# Altium schematic symbol library fpga_xilinx.SchLib: 16 symbols (part 2 of 5)
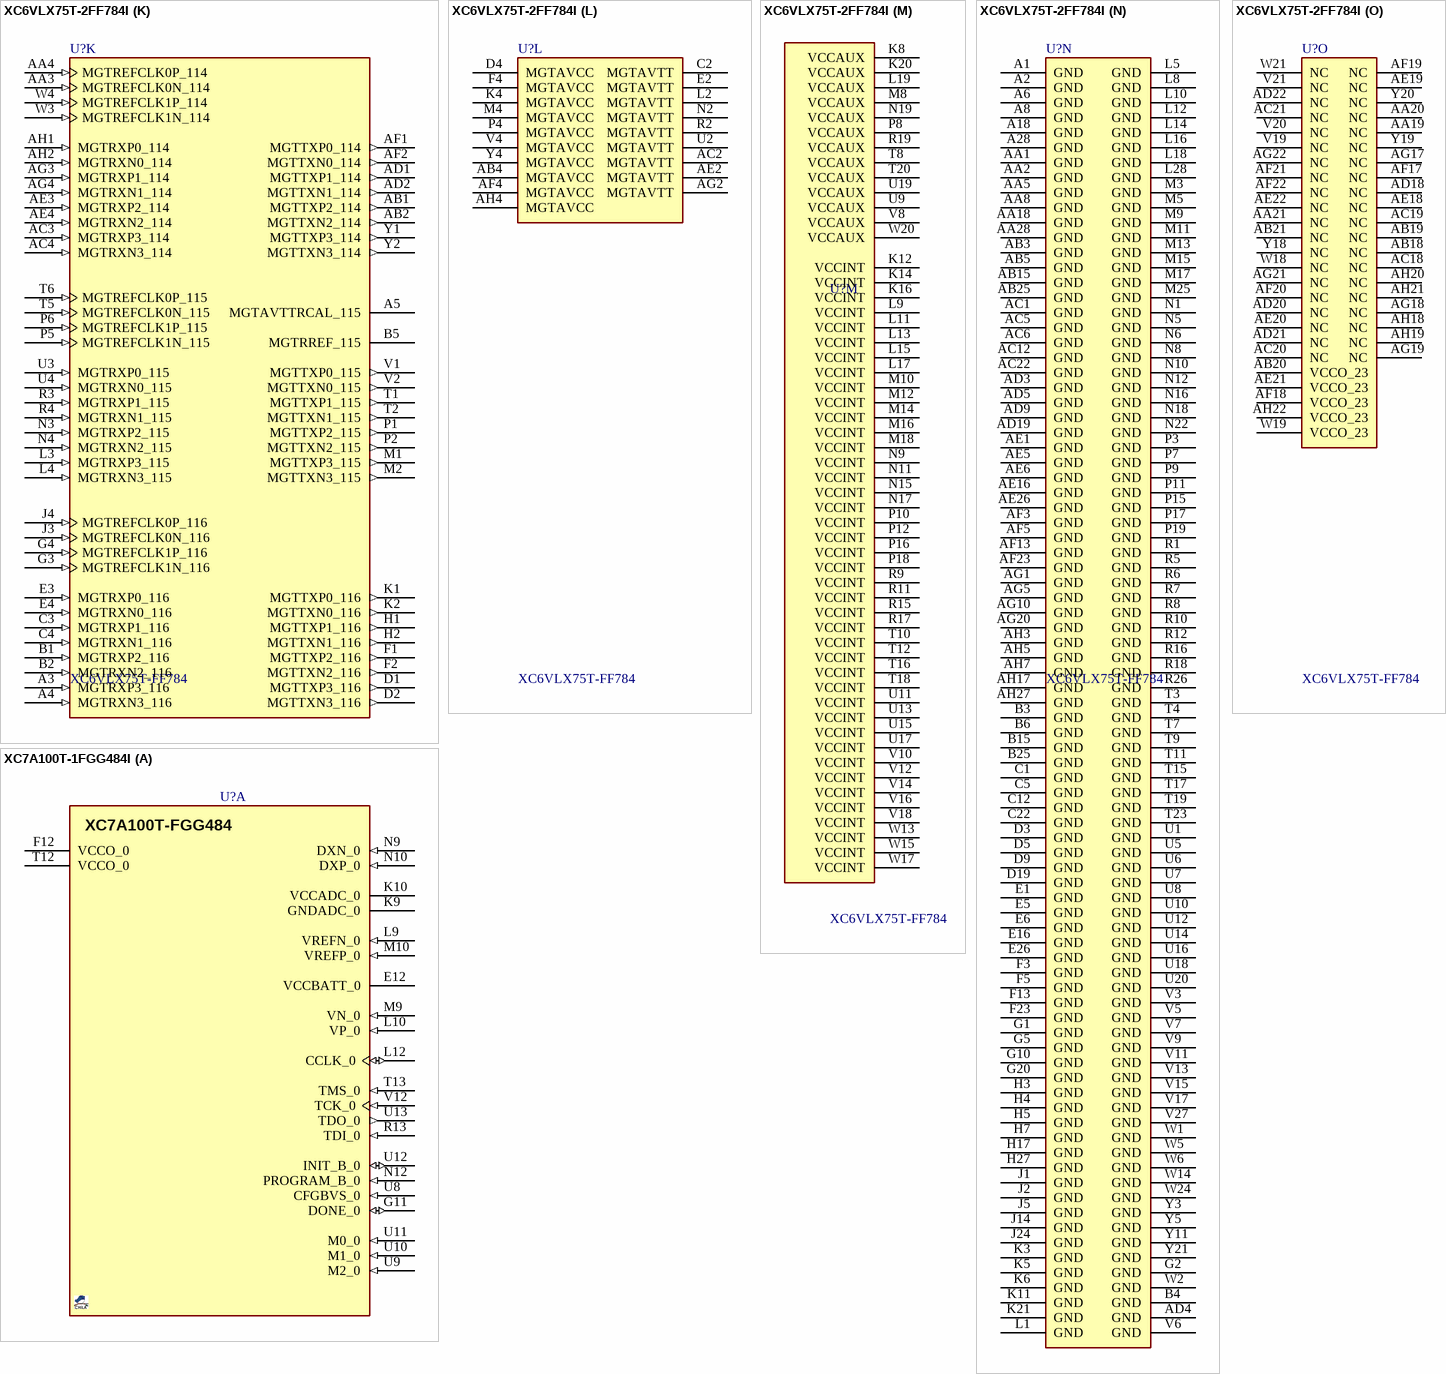
[diagram p35: symbols XC6VLX75T-2FF784I to XC7A100T-1FGG484I]

## XC6VLX75T-2FF784I
designator U?, comment XC6VLX75T-FF784
Virtex-6 LXT Platform FPGA, 360 User I/Os, 12 GTXs, 784-Ball FFBGA, Speed Grade 2, Industrial Grade; MANF: XILINX; MANF_P#: XC6VLX75T-2FF784I; ASSEMBLY: ASSEMBLY; VALUE: XC6VLX75T-FF784
footprint BGA100_784_S29 (BGA, 784-Leads, Body 29x29mm, Pitch 1mm)
part A pins: P20 IO_L14N_VREF_14 (io), P21 IO_L8P_SRCC_14 (io), P22 IO_L8N_SRCC_14 (io), R20 IO_L14P_14 (io), R21 VCCO_14 (power), R22 IO_L18P_14 (io), R23 IO_L18N_14 (io), R24 IO_L12P_VRN_14 (io), R25 IO_L12N_VRP_14 (io), R27 IO_L0P_14 (io), R28 IO_L0N_14 (io), T21 IO_L19P_14 (io), T22 IO_L19N_14 (io), T24 IO_L15P_14 (io), T25 IO_L15N_14 (io), T26 IO_L10N_MRCC_14 (io), T27 IO_L1P_14 (io), T28 VCCO_14 (power), U21 IO_L17N_14 (io), U22 IO_L17P_14 (io), U23 IO_L11N_SRCC_14 (io), U24 IO_L16N_14 (io), U25 VCCO_14 (power), U26 IO_L10P_MRCC_14 (io), U27 IO_L1N_14 (io), U28 IO_L2N_14 (io), V22 VCCO_14 (power), V23 IO_L11P_SRCC_14 (io), V24 IO_L16P_14 (io), V25 IO_L3N_14 (io), V26 IO_L4N_VREF_14 (io), V28 IO_L2P_14 (io), W22 IO_L13N_14 (io), W23 IO_L9N_MRCC_14 (io), W25 IO_L3P_14 (io), W26 IO_L4P_14 (io), W27 IO_L6P_14 (io), W28 IO_L5N_14 (io), Y22 IO_L13P_14 (io), Y23 IO_L9P_MRCC_14 (io), Y24 IO_L7N_14 (io), Y25 IO_L7P_14 (io), Y26 VCCO_14 (power), Y27 IO_L6N_14 (io), Y28 IO_L5P_14 (io)
part B pins: H25 IO_L1P_15 (io), H26 IO_L1N_15 (io), J23 IO_L2N_SM8N_15 (io), J25 IO_L5N_SM10N_15 (io), J26 IO_L3P_SM9P_15 (io), J27 IO_L3N_SM9N_15 (io), J28 IO_L7P_SM12P_15 (io), K22 IO_L0P_15 (io), K23 IO_L0N_15 (io), K24 IO_L2P_SM8P_15 (io), K25 IO_L5P_SM10P_15 (io), K26 VCCO_15 (power), K27 IO_L9P_MRCC_15 (io), K28 IO_L7N_SM12N_15 (io), L20 IO_L4P_15 (io), L21 IO_L8P_SRCC_15 (io), L22 IO_L8N_SRCC_15 (io), L23 VCCO_15 (power), L24 IO_L14P_15 (io), L25 IO_L14N_VREF_15 (io), L26 IO_L9N_MRCC_15 (io), L27 IO_L12N_SM13N_15 (io), M19 IO_L4N_VREF_15 (io), M20 VCCO_15 (power), M21 IO_L10N_MRCC_15 (io), M22 IO_L10P_MRCC_15 (io), M23 IO_L6P_SM11P_15 (io), M24 IO_L6N_SM11N_15 (io), M26 IO_L11P_SRCC_15 (io), M27 IO_L12P_SM13P_15 (io), M28 IO_L15N_SM15N_15 (io), N20 IO_L18P_15 (io), N21 IO_L18N_15 (io), N23 IO_L19P_15 (io), N24 IO_L16P_VRN_15 (io), N25 IO_L16N_VRP_15 (io), N26 IO_L11N_SRCC_15 (io), N27 VCCO_15 (power), N28 IO_L15P_SM15P_15 (io), P23 IO_L19N_15 (io), P24 VCCO_15 (power), P25 IO_L17N_15 (io), P26 IO_L17P_15 (io), P27 IO_L13N_SM14N_15 (io), P28 IO_L13P_SM14P_15 (io)
part C pins: A26 IO_L7P_16 (io), A27 IO_L7N_16 (io), B24 IO_L1P_16 (io), B26 IO_L3P_16 (io), B27 IO_L9P_MRCC_16 (io), B28 IO_L9N_MRCC_16 (io), C23 IO_L4N_VREF_16 (io), C24 IO_L1N_16 (io), C25 IO_L3N_16 (io), C26 IO_L18N_16 (io), C27 VCCO_16 (power), C28 IO_L11N_SRCC_16 (io), D22 IO_L4P_16 (io), D23 IO_L14N_VREF_16 (io), D24 VCCO_16 (power), D25 IO_L6N_16 (io), D26 IO_L18P_16 (io), D27 IO_L11P_SRCC_16 (io), D28 IO_L13P_16 (io), E22 IO_L5P_16 (io), E23 IO_L14P_16 (io), E24 IO_L6P_16 (io), E25 IO_L10P_MRCC_16 (io), E27 IO_L16N_16 (io), E28 IO_L13N_16 (io), F22 IO_L5N_16 (io), F24 IO_L10N_MRCC_16 (io), F25 IO_L15N_16 (io), F26 IO_L15P_16 (io), F27 IO_L16P_16 (io), F28 VCCO_16 (power), G22 IO_L0P_16 (io), G23 IO_L2N_16 (io), G24 IO_L12N_VRP_16 (io), G25 VCCO_16 (power), G26 IO_L17N_16 (io), G27 IO_L17P_16 (io), G28 IO_L19P_16 (io), H21 IO_L0N_16 (io), H22 VCCO_16 (power), H23 IO_L2P_16 (io), H24 IO_L12P_VRN_16 (io), H28 IO_L19N_16 (io), J21 IO_L8P_SRCC_16 (io), J22 IO_L8N_SRCC_16 (io)
part D pins: AA22 IO_L19N_24 (io), AA23 VCCO_24 (power), AA24 IO_L6P_D7_24 (io), AA25 IO_L6N_D6_24 (io), AA26 IO_L0P_GC_24 (io), AA27 IO_L0N_GC_24 (io), AB22 IO_L19P_24 (io), AB23 IO_L11P_SRCC_24 (io), AB24 IO_L16N_CSO_B_24 (io), AB26 IO_L8N_SRCC_24 (io), AB27 IO_L8P_SRCC_24 (io), AB28 IO_L2N_D14_24 (io), AC23 IO_L11N_SRCC_24 (io), AC24 IO_L16P_RS0_24 (io), AC25 IO_L7P_D5_24 (io), AC26 IO_L12P_D3_24 (io), AC27 VCCO_24 (power), AC28 IO_L2P_D15_24 (io), AD23 IO_L18N_24 (io), AD24 VCCO_24 (power), AD25 IO_L7N_D4_24 (io), AD26 IO_L12N_D2_FS2_24 (io), AD27 IO_L1N_GC_24 (io), AD28 IO_L1P_GC_24 (io), AE23 IO_L18P_24 (io), AE24 IO_L14P_FCS_B_24 (io), AE25 IO_L10P_MRCC_24 (io), AE27 IO_L5N_D8_24 (io), AE28 IO_L5P_D9_24 (io), AF24 IO_L14N_VREF_FOE_B_MOSI_24 (io), AF25 IO_L10N_MRCC_24 (io), AF26 IO_L9P_MRCC_24 (io), AF27 IO_L3N_D12_24 (io), AF28 VCCO_24 (power), AG23 IO_L17N_VRP_24 (io), AG24 IO_L15P_FWE_B_24 (io), AG25 VCCO_24 (power), AG26 IO_L9N_MRCC_24 (io), AG27 IO_L4P_D11_24 (io), AG28 IO_L3P_D13_24 (io), AH23 IO_L17P_VRN_24 (io), AH24 IO_L15N_RS1_24 (io), AH25 IO_L13N_D0_FS0_24 (io), AH26 IO_L13P_D1_FS1_24 (io), AH28 IO_L4N_VREF_D10_24 (io)
part E pins: A19 IO_L8N_SRCC_25 (io), A20 IO_L8P_SRCC_25 (io), A21 IO_L11P_SRCC_25 (io), A22 IO_L11N_SRCC_25 (io), A23 VCCO_25 (power), A24 IO_L15P_25 (io), A25 IO_L15N_25 (io), B18 IO_L5P_25 (io), B19 IO_L5N_25 (io), B20 VCCO_25 (power), B21 IO_L13P_25 (io), B22 IO_L17P_25 (io), B23 IO_L17N_25 (io), C18 IO_L3P_25 (io), C19 IO_L12P_25 (io), C20 IO_L12N_25 (io), C21 IO_L13N_25 (io), D17 IO_L6P_25 (io), D18 IO_L3N_25 (io), D20 IO_L10P_MRCC_25 (io), D21 IO_L16N_VRP_25 (io), E17 IO_L6N_25 (io), E18 IO_L7P_25 (io), E19 IO_L10N_MRCC_25 (io), E20 IO_L16P_VRN_25 (io), E21 VCCO_25 (power), F17 IO_L1N_25 (io), F18 VCCO_25 (power), F19 IO_L7N_25 (io), F20 IO_L19P_GC_25 (io), F21 IO_L19N_GC_25 (io), G17 IO_L1P_25 (io), G18 IO_L4P_25 (io), G19 IO_L9N_MRCC_25 (io), G21 IO_L18N_GC_25 (io), H18 IO_L4N_VREF_25 (io), H19 IO_L9P_MRCC_25 (io), H20 IO_L18P_GC_25 (io), J17 IO_L2P_25 (io), J18 IO_L2N_25 (io), J19 VCCO_25 (power), J20 IO_L14N_VREF_25 (io), K17 IO_L0P_25 (io), K18 IO_L0N_25 (io), K19 IO_L14P_25 (io)
part F pins: A11 IO_L14P_26 (io), A12 IO_L14N_VREF_26 (io), A13 VCCO_26 (power), A14 IO_L9N_MRCC_26 (io), A15 IO_L13P_26 (io), A16 IO_L13N_26 (io), A17 IO_L17P_26 (io), B11 IO_L5P_26 (io), B12 IO_L18P_26 (io), B13 IO_L7N_26 (io), B14 IO_L9P_MRCC_26 (io), B16 IO_L15N_26 (io), B17 IO_L17N_26 (io), C11 IO_L5N_26 (io), C13 IO_L18N_26 (io), C14 IO_L7P_26 (io), C15 IO_L15P_26 (io), C16 IO_L16N_26 (io), C17 VCCO_26 (power), D11 IO_L0N_26 (io), D12 IO_L6N_26 (io), D13 IO_L6P_26 (io), D14 VCCO_26 (power), D15 IO_L12N_VRP_26 (io), D16 IO_L16P_26 (io), E11 VCCO_26 (power), E12 IO_L0P_26 (io), E13 IO_L1P_26 (io), E14 IO_L1N_26 (io), E15 IO_L12P_VRN_26 (io), F12 IO_L11N_SRCC_26 (io), F14 IO_L3N_26 (io), F15 IO_L10N_MRCC_26 (io), F16 IO_L10P_MRCC_26 (io), G12 IO_L11P_SRCC_26 (io), G13 IO_L19N_26 (io), G14 IO_L3P_26 (io), G15 VCCO_26 (power), G16 IO_L2N_26 (io), H14 IO_L19P_26 (io), H15 IO_L4N_VREF_26 (io), H16 IO_L2P_26 (io), J15 IO_L8P_SRCC_26 (io), J16 IO_L4P_26 (io), K15 IO_L8N_SRCC_26 (io)
part G pins: AA12 IO_L8N_SRCC_34 (io), AA13 VCCO_34 (power), AA14 IO_L3N_A12_D28_34 (io), AA15 IO_L16P_A21_34 (io), AA16 IO_L17P_A19_34 (io), AA17 IO_L19N_VRP_34 (io), AB12 IO_L1P_GC_34 (io), AB13 IO_L3P_A13_D29_34 (io), AB14 IO_L5P_A09_D25_34 (io), AB16 IO_L14P_A25_34 (io), AB17 IO_L17N_A18_34 (io), AC13 IO_L1N_GC_34 (io), AC14 IO_L5N_A08_D24_34 (io), AC15 IO_L11N_SRCC_34 (io), AC16 IO_L14N_VREF_A24_34 (io), AC17 VCCO_34 (power), AD12 IO_L0N_GC_34 (io), AD13 IO_L6P_A07_D23_34 (io), AD14 VCCO_34 (power), AD15 IO_L11P_SRCC_34 (io), AD16 IO_L15P_A23_34 (io), AD17 IO_L12N_A02_D18_34 (io), AE13 IO_L0P_GC_34 (io), AE14 IO_L6N_A06_D22_34 (io), AE15 IO_L15N_A22_34 (io), AE17 IO_L12P_A03_D19_34 (io), AF14 IO_L4P_A11_D27_34 (io), AF15 IO_L10N_MRCC_34 (io), AF16 IO_L13P_A01_D17_34 (io), AG13 IO_L4N_VREF_A10_D26_34 (io), AG14 IO_L10P_MRCC_34 (io), AG15 VCCO_34 (power), AG16 IO_L13N_A00_D16_34 (io), AH13 IO_L7P_A05_D21_34 (io), AH14 IO_L7N_A04_D20_34 (io), AH15 IO_L9P_MRCC_34 (io), AH16 IO_L9N_MRCC_34 (io), W12 IO_L2P_A15_D31_34 (io), W16 IO_L18P_A17_34 (io), Y12 IO_L2N_A14_D30_34 (io), Y13 IO_L8P_SRCC_34 (io), Y14 IO_L16N_A20_34 (io), Y15 IO_L18N_A16_34 (io), Y16 VCCO_34 (power), Y17 IO_L19P_VRN_34 (io)
part H pins: AA7 IO_L2P_SM0P_35 (io), AA9 IO_L4P_35 (io), AA10 IO_L1N_35 (io), AA11 IO_L9N_MRCC_35 (io), AB7 IO_L2N_SM0N_35 (io), AB8 IO_L6N_SM3N_35 (io), AB9 IO_L4N_VREF_35 (io), AB10 VCCO_35 (power), AB11 IO_L9P_MRCC_35 (io), AC7 VCCO_35 (power), AC8 IO_L6P_SM3P_35 (io), AC9 IO_L3P_SM1P_35 (io), AC10 IO_L5P_SM2P_35 (io), AC11 IO_L7N_SM4N_35 (io), AD7 IO_L10P_MRCC_35 (io), AD8 IO_L3N_SM1N_35 (io), AD10 IO_L5N_SM2N_35 (io), AD11 IO_L7P_SM4P_35 (io), AE7 IO_L10N_MRCC_35 (io), AE8 IO_L12N_SM5N_35 (io), AE9 IO_L14P_35 (io), AE10 IO_L18N_GC_35 (io), AE11 VCCO_35 (power), AE12 IO_L15N_SM7N_35 (io), AF7 IO_L12P_SM5P_35 (io), AF8 VCCO_35 (power), AF9 IO_L14N_VREF_35 (io), AF10 IO_L18P_GC_35 (io), AF11 IO_L11P_SRCC_35 (io), AF12 IO_L15P_SM7P_35 (io), AG7 IO_L16P_VRN_35 (io), AG8 IO_L16N_VRP_35 (io), AG9 IO_L13P_SM6P_35 (io), AG11 IO_L11N_SRCC_35 (io), AG12 IO_L19N_GC_35 (io), AH8 IO_L13N_SM6N_35 (io), AH9 IO_L17P_35 (io), AH10 IO_L17N_35 (io), AH11 IO_L19P_GC_35 (io), AH12 VCCO_35 (power), W8 IO_L0P_35 (io), W9 VCCO_35 (power), W10 IO_L8N_SRCC_35 (io), W11 IO_L8P_SRCC_35 (io), Y9 IO_L0N_35 (io), Y10 IO_L1P_35 (io)
part I pins: A7 IO_L3P_36 (io), A9 IO_L2N_36 (io), A10 IO_L2P_36 (io), B7 IO_L3N_36 (io), B8 IO_L1P_36 (io), B9 IO_L12P_VRN_36 (io), B10 VCCO_36 (power), C7 VCCO_36 (power), C8 IO_L1N_36 (io), C9 IO_L12N_VRP_36 (io), C10 IO_L8N_SRCC_36 (io), D7 IO_L14P_36 (io), D8 IO_L5P_36 (io), D10 IO_L8P_SRCC_36 (io), E7 IO_L14N_VREF_36 (io), E8 IO_L7P_36 (io), E9 IO_L5N_36 (io), E10 IO_L0N_36 (io), F7 IO_L9P_MRCC_36 (io), F8 VCCO_36 (power), F9 IO_L7N_36 (io), F10 IO_L6N_36 (io), F11 IO_L0P_36 (io), G7 IO_L9N_MRCC_36 (io), G8 IO_L13P_36 (io), G9 IO_L13N_36 (io), G11 IO_L6P_36 (io), H8 IO_L15P_36 (io), H9 IO_L15N_36 (io), H10 IO_L10N_MRCC_36 (io), H11 IO_L10P_MRCC_36 (io), H12 VCCO_36 (power), H13 IO_L4P_36 (io), J7 IO_L17P_36 (io), J8 IO_L17N_36 (io), J9 VCCO_36 (power), J10 IO_L16N_36 (io), J11 IO_L16P_36 (io), J12 IO_L11P_SRCC_36 (io), J13 IO_L4N_VREF_36 (io), K7 IO_L19P_36 (io), K9 IO_L18P_36 (io), K10 IO_L18N_36 (io), K13 IO_L11N_SRCC_36 (io), L7 IO_L19N_36 (io)
part J pins: AA6 TDI_0 (in), AB6 TCK_0 (in), AD6 VFS_0 (power), AF6 DOUT_BUSY_0 (out), AG6 CSI_B_0 (in), AH6 CCLK_0 (io), C6 M2_0 (in), D6 M1_0 (in), F6 M0_0 (in), G6 RDWR_B_0 (in), H6 DIN_0 (in), J6 VBATT_0 (power), L6 DONE_0 (io), M6 INIT_B_0 (io), M7 PROGRAM_B_0 (in), N7 HSWAPEN_0 (in), N13 AVSS_0 (power), N14 AVDD_0 (power), P13 VREFN_0 (power), P14 VP_0 (power), R13 VN_0 (power), R14 VREFP_0 (power), T13 DXN_0, T14 DXP_0, W7 VCCO_0 (power), Y6 TMS_0 (in), Y7 TDO_0 (out), Y8 VCCO_0 (power)
part K pins: A3 MGTRXP3_116 (in), A4 MGTRXN3_116 (in), A5 MGTAVTTRCAL_115, AA3 MGTREFCLK0N_114 (in), AA4 MGTREFCLK0P_114 (in), AB1 MGTTXP2_114 (out), AB2 MGTTXN2_114 (out), AC3 MGTRXP3_114 (in), AC4 MGTRXN3_114 (in), AD1 MGTTXP1_114 (out), AD2 MGTTXN1_114 (out), AE3 MGTRXP2_114 (in), AE4 MGTRXN2_114 (in), AF1 MGTTXP0_114 (out), AF2 MGTTXN0_114 (out), AG3 MGTRXP1_114 (in), AG4 MGTRXN1_114 (in), AH1 MGTRXP0_114 (in), AH2 MGTRXN0_114 (in), B1 MGTRXP2_116 (in), B2 MGTRXN2_116 (in), B5 MGTRREF_115, C3 MGTRXP1_116 (in), C4 MGTRXN1_116 (in), D1 MGTTXP3_116 (out), D2 MGTTXN3_116 (out), E3 MGTRXP0_116 (in), E4 MGTRXN0_116 (in), F1 MGTTXP2_116 (out), F2 MGTTXN2_116 (out), G3 MGTREFCLK1N_116 (in), G4 MGTREFCLK1P_116 (in), H1 MGTTXP1_116 (out), H2 MGTTXN1_116 (out), J3 MGTREFCLK0N_116 (in), J4 MGTREFCLK0P_116 (in), K1 MGTTXP0_116 (out), K2 MGTTXN0_116 (out), L3 MGTRXP3_115 (in), L4 MGTRXN3_115 (in), M1 MGTTXP3_115 (out), M2 MGTTXN3_115 (out), N3 MGTRXP2_115 (in), N4 MGTRXN2_115 (in), P1 MGTTXP2_115 (out), P2 MGTTXN2_115 (out), P5 MGTREFCLK1N_115 (in), P6 MGTREFCLK1P_115 (in), R3 MGTRXP1_115 (in), R4 MGTRXN1_115 (in), T1 MGTTXP1_115 (out), T2 MGTTXN1_115 (out), T5 MGTREFCLK0N_115 (in), T6 MGTREFCLK0P_115 (in), U3 MGTRXP0_115 (in), U4 MGTRXN0_115 (in), V1 MGTTXP0_115 (out), V2 MGTTXN0_115 (out), W3 MGTREFCLK1N_114 (in), W4 MGTREFCLK1P_114 (in), Y1 MGTTXP3_114 (out), Y2 MGTTXN3_114 (out)
part L pins: AB4 MGTAVCC (power), AC2 MGTAVTT (power), AE2 MGTAVTT (power), AF4 MGTAVCC (power), AG2 MGTAVTT (power), AH4 MGTAVCC (power), C2 MGTAVTT (power), D4 MGTAVCC (power), E2 MGTAVTT (power), F4 MGTAVCC (power), K4 MGTAVCC (power), L2 MGTAVTT (power), M4 MGTAVCC (power), N2 MGTAVTT (power), P4 MGTAVCC (power), R2 MGTAVTT (power), U2 MGTAVTT (power), V4 MGTAVCC (power), Y4 MGTAVCC (power)
part M pins: K8 VCCAUX (power), K12 VCCINT (power), K14 VCCINT (power), K16 VCCINT (power), K20 VCCAUX (power), L9 VCCINT (power), L11 VCCINT (power), L13 VCCINT (power), L15 VCCINT (power), L17 VCCINT (power), L19 VCCAUX (power), M8 VCCAUX (power), M10 VCCINT (power), M12 VCCINT (power), M14 VCCINT (power), M16 VCCINT (power), M18 VCCINT (power), N9 VCCINT (power), N11 VCCINT (power), N15 VCCINT (power), N17 VCCINT (power), N19 VCCAUX (power), P8 VCCAUX (power), P10 VCCINT (power), P12 VCCINT (power), P16 VCCINT (power), P18 VCCINT (power), R9 VCCINT (power), R11 VCCINT (power), R15 VCCINT (power), R17 VCCINT (power), R19 VCCAUX (power), T8 VCCAUX (power), T10 VCCINT (power), T12 VCCINT (power), T16 VCCINT (power), T18 VCCINT (power), T20 VCCAUX (power), U9 VCCAUX (power), U11 VCCINT (power), U13 VCCINT (power), U15 VCCINT (power), U17 VCCINT (power), U19 VCCAUX (power), V8 VCCAUX (power), V10 VCCINT (power), V12 VCCINT (power), V14 VCCINT (power), V16 VCCINT (power), V18 VCCINT (power), W13 VCCINT (power), W15 VCCINT (power), W17 VCCINT (power), W20 VCCAUX (power)
part N pins: A1 GND (power), A2 GND (power), A6 GND (power), A8 GND (power), A18 GND (power), A28 GND (power), AA1 GND (power), AA2 GND (power), AA5 GND (power), AA8 GND (power), AA18 GND (power), AA28 GND (power), AB3 GND (power), AB5 GND (power), AB15 GND (power), AB25 GND (power), AC1 GND (power), AC5 GND (power), AC6 GND (power), AC12 GND (power), AC22 GND (power), AD3 GND (power), AD4 GND (power), AD5 GND (power), AD9 GND (power), AD19 GND (power), AE1 GND (power), AE5 GND (power), AE6 GND (power), AE16 GND (power), AE26 GND (power), AF3 GND (power), AF5 GND (power), AF13 GND (power), AF23 GND (power), AG1 GND (power), AG5 GND (power), AG10 GND (power), AG20 GND (power), AH3 GND (power), AH5 GND (power), AH7 GND (power), AH17 GND (power), AH27 GND (power), B3 GND (power), B4 GND (power), B6 GND (power), B15 GND (power), B25 GND (power), C1 GND (power), C5 GND (power), C12 GND (power), C22 GND (power), D3 GND (power), D5 GND (power), D9 GND (power), D19 GND (power), E1 GND (power), E5 GND (power), E6 GND (power), E16 GND (power), E26 GND (power), F3 GND (power), F5 GND (power), F13 GND (power), F23 GND (power), G1 GND (power), G2 GND (power), G5 GND (power), G10 GND (power), G20 GND (power), H3 GND (power), H4 GND (power), H5 GND (power), H7 GND (power), H17 GND (power), H27 GND (power), J1 GND (power), J2 GND (power), J5 GND (power), J14 GND (power), J24 GND (power), K3 GND (power), K5 GND (power), K6 GND (power), K11 GND (power), K21 GND (power), L1 GND (power), L5 GND (power), L8 GND (power), L10 GND (power), L12 GND (power), L14 GND (power), L16 GND (power), L18 GND (power), L28 GND (power), M3 GND (power), M5 GND (power), M9 GND (power), M11 GND (power), M13 GND (power), M15 GND (power), M17 GND (power), M25 GND (power), N1 GND (power), N5 GND (power), N6 GND (power), N8 GND (power), N10 GND (power), N12 GND (power), N16 GND (power), N18 GND (power), N22 GND (power), P3 GND (power), P7 GND (power), P9 GND (power), P11 GND (power), P15 GND (power), P17 GND (power), P19 GND (power), R1 GND (power), R5 GND (power), R6 GND (power), R7 GND (power), R8 GND (power), R10 GND (power), R12 GND (power), R16 GND (power), R18 GND (power), R26 GND (power), T3 GND (power), T4 GND (power), T7 GND (power), T9 GND (power), T11 GND (power), T15 GND (power), T17 GND (power), T19 GND (power), T23 GND (power), U1 GND (power), U5 GND (power), U6 GND (power), U7 GND (power), U8 GND (power), U10 GND (power), U12 GND (power), U14 GND (power), U16 GND (power), U18 GND (power), U20 GND (power), V3 GND (power), V5 GND (power), V6 GND (power), V7 GND (power), V9 GND (power), V11 GND (power), V13 GND (power), V15 GND (power), V17 GND (power), V27 GND (power), W1 GND (power), W2 GND (power), W5 GND (power), W6 GND (power), W14 GND (power), W24 GND (power), Y3 GND (power), Y5 GND (power), Y11 GND (power), Y21 GND (power)
part O pins: AA19 NC, AA20 NC, AA21 NC, AB18 NC, AB19 NC, AB20 VCCO_23 (power), AB21 NC, AC18 NC, AC19 NC, AC20 NC, AC21 NC, AD18 NC, AD20 NC, AD21 NC, AD22 NC, AE18 NC, AE19 NC, AE20 NC, AE21 VCCO_23 (power), AE22 NC, AF17 NC, AF18 VCCO_23 (power), AF19 NC, AF20 NC, AF21 NC, AF22 NC, AG17 NC, AG18 NC, AG19 NC, AG21 NC, AG22 NC, AH18 NC, AH19 NC, AH20 NC, AH21 NC, AH22 VCCO_23 (power), V19 NC, V20 NC, V21 NC, W18 NC, W19 VCCO_23 (power), W21 NC, Y18 NC, Y19 NC, Y20 NC
part A text: BANK 14
part B text: BANK 15
part C text: BANK 16
part D text: BANK 24
part E text: BANK 25
part F text: BANK 26
part G text: BANK 34
part H text: BANK 35
part I text: BANK 36

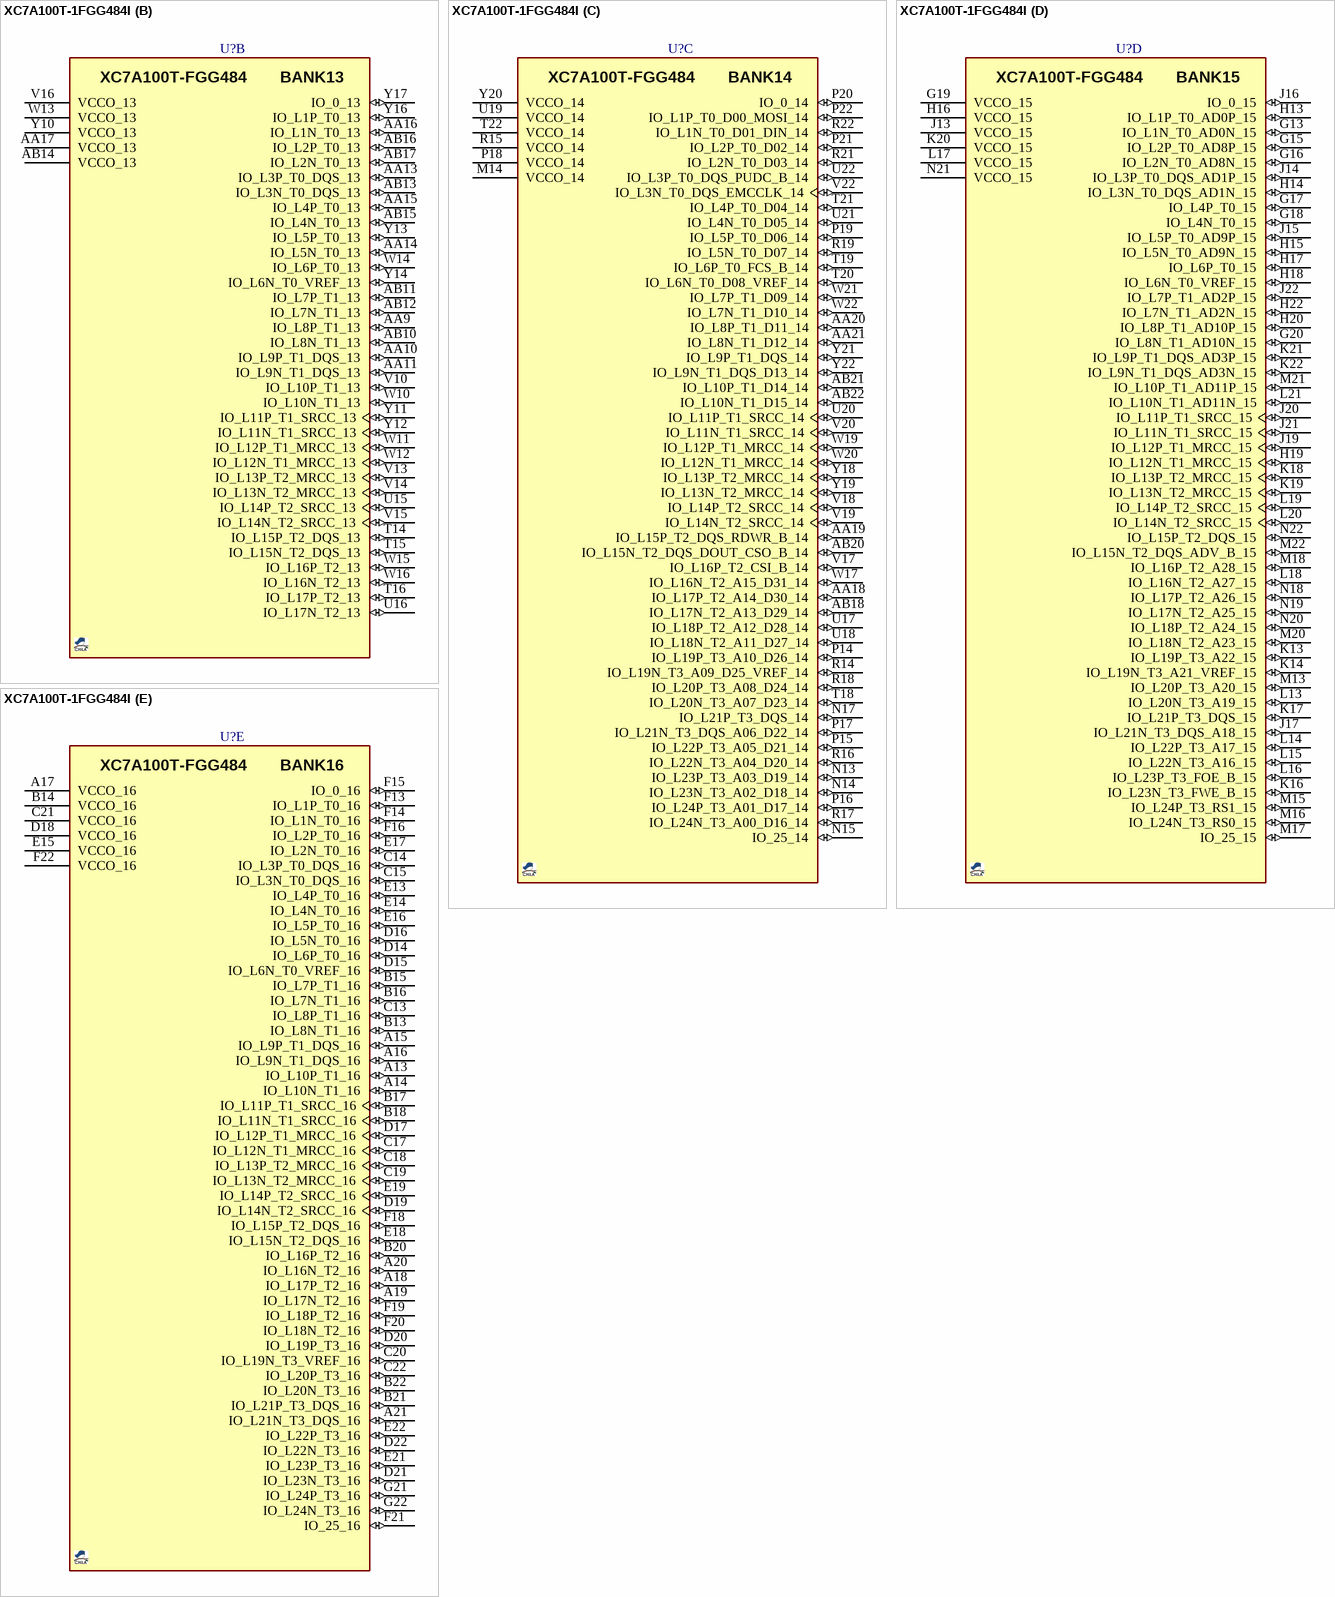
[diagram p9: symbol XC7A100T-1FGG484I]

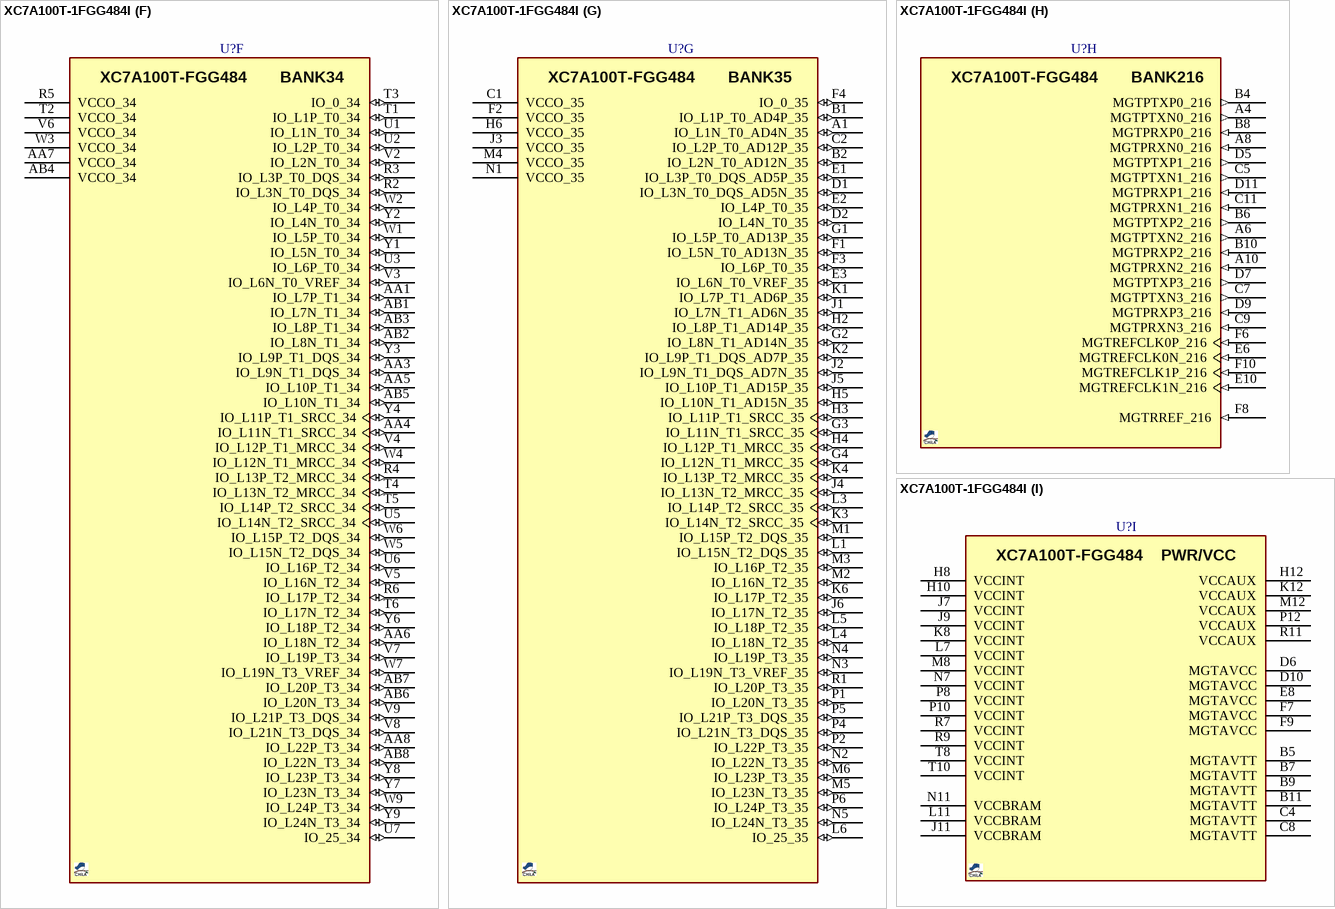
[diagram p10: symbol XC7A100T-1FGG484I]

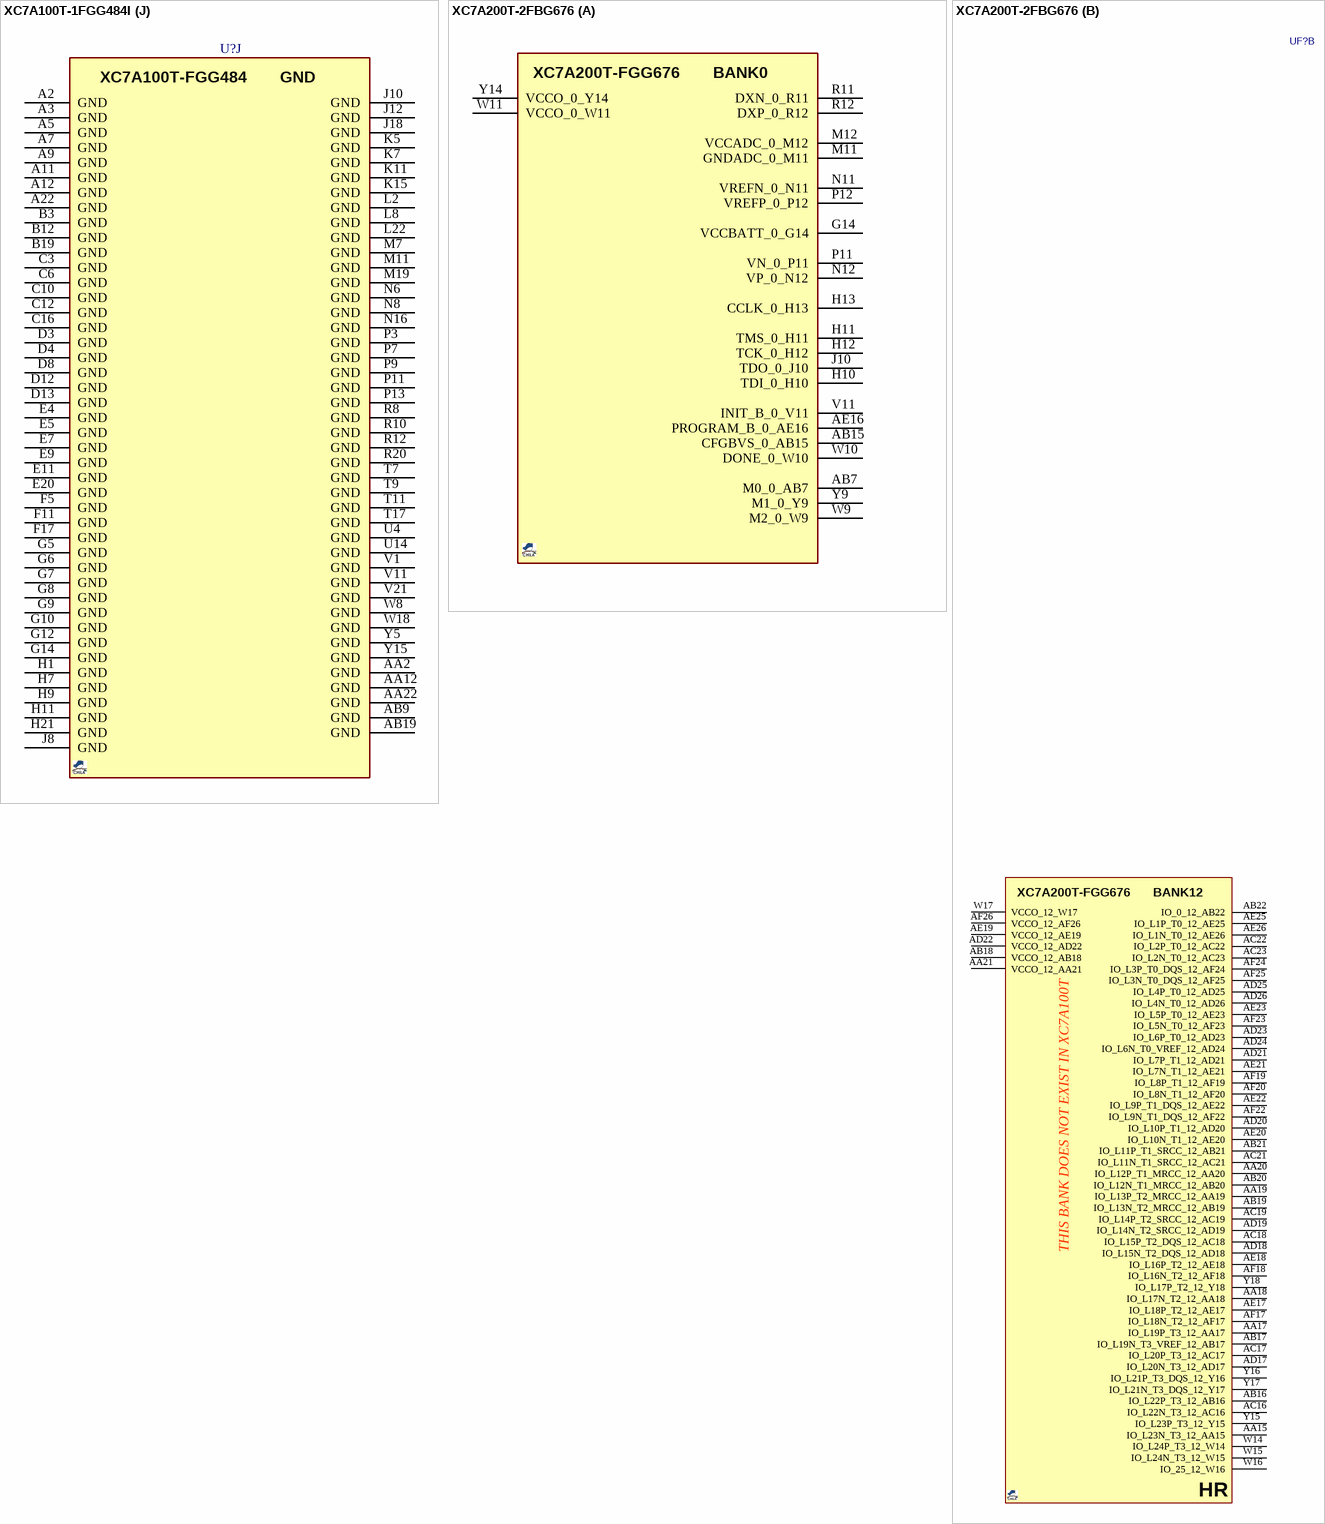
[diagram p11: symbols XC7A100T-1FGG484I to XC7A200T-2FBG676]

## XC7A100T-1FGG484I
designator U?, comment XC7A100T-FGG484  (value not drawn)
Artix-7 FPGA, 285 User I/Os, 4 GTP, 484-Ball BGA, Speed Grade 1, Industrial Grade, Pb-Free; PARAM: 240 DSP48E1, 100K logic cell, 300 IO; MANF: XILINX; ASSEMBLY: ASSEMBLY; VALUE: XC7A100T-FGG484
footprint BGA100_484_S23 (BGA, 484-Leads, Body 23.0x23.0mm,  Pitch 1.00mm)
part A pins: E12 VCCBATT_0 (power), F12 VCCO_0 (power), G11 DONE_0 (io), K9 GNDADC_0 (power), K10 VCCADC_0 (power), L9 VREFN_0 (in), L10 VP_0 (in), L12 CCLK_0 (io), M9 VN_0 (in), M10 VREFP_0 (in), N9 DXN_0 (in), N10 DXP_0 (in), N12 PROGRAM_B_0 (in), R13 TDI_0 (in), T12 VCCO_0 (power), T13 TMS_0 (in), U8 CFGBVS_0 (in), U9 M2_0 (in), U10 M1_0 (in), U11 M0_0 (in), U12 INIT_B_0 (io), U13 TDO_0 (out), V12 TCK_0 (in)
part B pins: AA9 IO_L8P_T1_13 (io), AA10 IO_L9P_T1_DQS_13 (io), AA11 IO_L9N_T1_DQS_13 (io), AA13 IO_L3P_T0_DQS_13 (io), AA14 IO_L5N_T0_13 (io), AA15 IO_L4P_T0_13 (io), AA16 IO_L1N_T0_13 (io), AA17 VCCO_13 (power), AB10 IO_L8N_T1_13 (io), AB11 IO_L7P_T1_13 (io), AB12 IO_L7N_T1_13 (io), AB13 IO_L3N_T0_DQS_13 (io), AB14 VCCO_13 (power), AB15 IO_L4N_T0_13 (io), AB16 IO_L2P_T0_13 (io), AB17 IO_L2N_T0_13 (io), T14 IO_L15P_T2_DQS_13 (io), T15 IO_L15N_T2_DQS_13 (io), T16 IO_L17P_T2_13 (io), U15 IO_L14P_T2_SRCC_13 (io), U16 IO_L17N_T2_13 (io), V10 IO_L10P_T1_13 (io), V13 IO_L13P_T2_MRCC_13 (io), V14 IO_L13N_T2_MRCC_13 (io), V15 IO_L14N_T2_SRCC_13 (io), V16 VCCO_13 (power), W10 IO_L10N_T1_13 (io), W11 IO_L12P_T1_MRCC_13 (io), W12 IO_L12N_T1_MRCC_13 (io), W13 VCCO_13 (power), W14 IO_L6P_T0_13 (io), W15 IO_L16P_T2_13 (io), W16 IO_L16N_T2_13 (io), Y10 VCCO_13 (power), Y11 IO_L11P_T1_SRCC_13 (io), Y12 IO_L11N_T1_SRCC_13 (io), Y13 IO_L5P_T0_13 (io), Y14 IO_L6N_T0_VREF_13 (io), Y16 IO_L1P_T0_13 (io), Y17 IO_0_13 (io)
part C pins: AA18 IO_L17P_T2_A14_D30_14 (io), AA19 IO_L15P_T2_DQS_RDWR_B_14 (io), AA20 IO_L8P_T1_D11_14 (io), AA21 IO_L8N_T1_D12_14 (io), AB18 IO_L17N_T2_A13_D29_14 (io), AB20 IO_L15N_T2_DQS_DOUT_CSO_B_14 (io), AB21 IO_L10P_T1_D14_14 (io), AB22 IO_L10N_T1_D15_14 (io), M14 VCCO_14 (power), N13 IO_L23P_T3_A03_D19_14 (io), N14 IO_L23N_T3_A02_D18_14 (io), N15 IO_25_14 (io), N17 IO_L21P_T3_DQS_14 (io), P14 IO_L19P_T3_A10_D26_14 (io), P15 IO_L22P_T3_A05_D21_14 (io), P16 IO_L24P_T3_A01_D17_14 (io), P17 IO_L21N_T3_DQS_A06_D22_14 (io), P18 VCCO_14 (power), P19 IO_L5P_T0_D06_14 (io), P20 IO_0_14 (io), P21 IO_L2P_T0_D02_14 (io), P22 IO_L1P_T0_D00_MOSI_14 (io), R14 IO_L19N_T3_A09_D25_VREF_14 (io), R15 VCCO_14 (power), R16 IO_L22N_T3_A04_D20_14 (io), R17 IO_L24N_T3_A00_D16_14 (io), R18 IO_L20P_T3_A08_D24_14 (io), R19 IO_L5N_T0_D07_14 (io), R21 IO_L2N_T0_D03_14 (io), R22 IO_L1N_T0_D01_DIN_14 (io), T18 IO_L20N_T3_A07_D23_14 (io), T19 IO_L6P_T0_FCS_B_14 (io), T20 IO_L6N_T0_D08_VREF_14 (io), T21 IO_L4P_T0_D04_14 (io), T22 VCCO_14 (power), U17 IO_L18P_T2_A12_D28_14 (io), U18 IO_L18N_T2_A11_D27_14 (io), U19 VCCO_14 (power), U20 IO_L11P_T1_SRCC_14 (io), U21 IO_L4N_T0_D05_14 (io), U22 IO_L3P_T0_DQS_PUDC_B_14 (io), V17 IO_L16P_T2_CSI_B_14 (io), V18 IO_L14P_T2_SRCC_14 (io), V19 IO_L14N_T2_SRCC_14 (io), V20 IO_L11N_T1_SRCC_14 (io), V22 IO_L3N_T0_DQS_EMCCLK_14 (io), W17 IO_L16N_T2_A15_D31_14 (io), W19 IO_L12P_T1_MRCC_14 (io), W20 IO_L12N_T1_MRCC_14 (io), W21 IO_L7P_T1_D09_14 (io), W22 IO_L7N_T1_D10_14 (io), Y18 IO_L13P_T2_MRCC_14 (io), Y19 IO_L13N_T2_MRCC_14 (io), Y20 VCCO_14 (power), Y21 IO_L9P_T1_DQS_14 (io), Y22 IO_L9N_T1_DQS_D13_14 (io)
part D pins: G13 IO_L1N_T0_AD0N_15 (io), G15 IO_L2P_T0_AD8P_15 (io), G16 IO_L2N_T0_AD8N_15 (io), G17 IO_L4P_T0_15 (io), G18 IO_L4N_T0_15 (io), G19 VCCO_15 (power), G20 IO_L8N_T1_AD10N_15 (io), H13 IO_L1P_T0_AD0P_15 (io), H14 IO_L3N_T0_DQS_AD1N_15 (io), H15 IO_L5N_T0_AD9N_15 (io), H16 VCCO_15 (power), H17 IO_L6P_T0_15 (io), H18 IO_L6N_T0_VREF_15 (io), H19 IO_L12N_T1_MRCC_15 (io), H20 IO_L8P_T1_AD10P_15 (io), H22 IO_L7N_T1_AD2N_15 (io), J13 VCCO_15 (power), J14 IO_L3P_T0_DQS_AD1P_15 (io), J15 IO_L5P_T0_AD9P_15 (io), J16 IO_0_15 (io), J17 IO_L21N_T3_DQS_A18_15 (io), J19 IO_L12P_T1_MRCC_15 (io), J20 IO_L11P_T1_SRCC_15 (io), J21 IO_L11N_T1_SRCC_15 (io), J22 IO_L7P_T1_AD2P_15 (io), K13 IO_L19P_T3_A22_15 (io), K14 IO_L19N_T3_A21_VREF_15 (io), K16 IO_L23N_T3_FWE_B_15 (io), K17 IO_L21P_T3_DQS_15 (io), K18 IO_L13P_T2_MRCC_15 (io), K19 IO_L13N_T2_MRCC_15 (io), K20 VCCO_15 (power), K21 IO_L9P_T1_DQS_AD3P_15 (io), K22 IO_L9N_T1_DQS_AD3N_15 (io), L13 IO_L20N_T3_A19_15 (io), L14 IO_L22P_T3_A17_15 (io), L15 IO_L22N_T3_A16_15 (io), L16 IO_L23P_T3_FOE_B_15 (io), L17 VCCO_15 (power), L18 IO_L16N_T2_A27_15 (io), L19 IO_L14P_T2_SRCC_15 (io), L20 IO_L14N_T2_SRCC_15 (io), L21 IO_L10N_T1_AD11N_15 (io), M13 IO_L20P_T3_A20_15 (io), M15 IO_L24P_T3_RS1_15 (io), M16 IO_L24N_T3_RS0_15 (io), M17 IO_25_15 (io), M18 IO_L16P_T2_A28_15 (io), M20 IO_L18N_T2_A23_15 (io), M21 IO_L10P_T1_AD11P_15 (io), M22 IO_L15N_T2_DQS_ADV_B_15 (io), N18 IO_L17P_T2_A26_15 (io), N19 IO_L17N_T2_A25_15 (io), N20 IO_L18P_T2_A24_15 (io), N21 VCCO_15 (power), N22 IO_L15P_T2_DQS_15 (io)
part E pins: A13 IO_L10P_T1_16 (io), A14 IO_L10N_T1_16 (io), A15 IO_L9P_T1_DQS_16 (io), A16 IO_L9N_T1_DQS_16 (io), A17 VCCO_16 (power), A18 IO_L17P_T2_16 (io), A19 IO_L17N_T2_16 (io), A20 IO_L16N_T2_16 (io), A21 IO_L21N_T3_DQS_16 (io), B13 IO_L8N_T1_16 (io), B14 VCCO_16 (power), B15 IO_L7P_T1_16 (io), B16 IO_L7N_T1_16 (io), B17 IO_L11P_T1_SRCC_16 (io), B18 IO_L11N_T1_SRCC_16 (io), B20 IO_L16P_T2_16 (io), B21 IO_L21P_T3_DQS_16 (io), B22 IO_L20N_T3_16 (io), C13 IO_L8P_T1_16 (io), C14 IO_L3P_T0_DQS_16 (io), C15 IO_L3N_T0_DQS_16 (io), C17 IO_L12N_T1_MRCC_16 (io), C18 IO_L13P_T2_MRCC_16 (io), C19 IO_L13N_T2_MRCC_16 (io), C20 IO_L19N_T3_VREF_16 (io), C21 VCCO_16 (power), C22 IO_L20P_T3_16 (io), D14 IO_L6P_T0_16 (io), D15 IO_L6N_T0_VREF_16 (io), D16 IO_L5N_T0_16 (io), D17 IO_L12P_T1_MRCC_16 (io), D18 VCCO_16 (power), D19 IO_L14N_T2_SRCC_16 (io), D20 IO_L19P_T3_16 (io), D21 IO_L23N_T3_16 (io), D22 IO_L22N_T3_16 (io), E13 IO_L4P_T0_16 (io), E14 IO_L4N_T0_16 (io), E15 VCCO_16 (power), E16 IO_L5P_T0_16 (io), E17 IO_L2N_T0_16 (io), E18 IO_L15N_T2_DQS_16 (io), E19 IO_L14P_T2_SRCC_16 (io), E21 IO_L23P_T3_16 (io), E22 IO_L22P_T3_16 (io), F13 IO_L1P_T0_16 (io), F14 IO_L1N_T0_16 (io), F15 IO_0_16 (io), F16 IO_L2P_T0_16 (io), F18 IO_L15P_T2_DQS_16 (io), F19 IO_L18P_T2_16 (io), F20 IO_L18N_T2_16 (io), F21 IO_25_16 (io), F22 VCCO_16 (power), G21 IO_L24P_T3_16 (io), G22 IO_L24N_T3_16 (io)
part F pins: AA1 IO_L7P_T1_34 (io), AA3 IO_L9N_T1_DQS_34 (io), AA4 IO_L11N_T1_SRCC_34 (io), AA5 IO_L10P_T1_34 (io), AA6 IO_L18N_T2_34 (io), AA7 VCCO_34 (power), AA8 IO_L22P_T3_34 (io), AB1 IO_L7N_T1_34 (io), AB2 IO_L8N_T1_34 (io), AB3 IO_L8P_T1_34 (io), AB4 VCCO_34 (power), AB5 IO_L10N_T1_34 (io), AB6 IO_L20N_T3_34 (io), AB7 IO_L20P_T3_34 (io), AB8 IO_L22N_T3_34 (io), R2 IO_L3N_T0_DQS_34 (io), R3 IO_L3P_T0_DQS_34 (io), R4 IO_L13P_T2_MRCC_34 (io), R5 VCCO_34 (power), R6 IO_L17P_T2_34 (io), T1 IO_L1P_T0_34 (io), T2 VCCO_34 (power), T3 IO_0_34 (io), T4 IO_L13N_T2_MRCC_34 (io), T5 IO_L14P_T2_SRCC_34 (io), T6 IO_L17N_T2_34 (io), U1 IO_L1N_T0_34 (io), U2 IO_L2P_T0_34 (io), U3 IO_L6P_T0_34 (io), U5 IO_L14N_T2_SRCC_34 (io), U6 IO_L16P_T2_34 (io), U7 IO_25_34 (io), V2 IO_L2N_T0_34 (io), V3 IO_L6N_T0_VREF_34 (io), V4 IO_L12P_T1_MRCC_34 (io), V5 IO_L16N_T2_34 (io), V6 VCCO_34 (power), V7 IO_L19P_T3_34 (io), V8 IO_L21N_T3_DQS_34 (io), V9 IO_L21P_T3_DQS_34 (io), W1 IO_L5P_T0_34 (io), W2 IO_L4P_T0_34 (io), W3 VCCO_34 (power), W4 IO_L12N_T1_MRCC_34 (io), W5 IO_L15N_T2_DQS_34 (io), W6 IO_L15P_T2_DQS_34 (io), W7 IO_L19N_T3_VREF_34 (io), W9 IO_L24P_T3_34 (io), Y1 IO_L5N_T0_34 (io), Y2 IO_L4N_T0_34 (io), Y3 IO_L9P_T1_DQS_34 (io), Y4 IO_L11P_T1_SRCC_34 (io), Y6 IO_L18P_T2_34 (io), Y7 IO_L23N_T3_34 (io), Y8 IO_L23P_T3_34 (io), Y9 IO_L24N_T3_34 (io)
part G pins: A1 IO_L1N_T0_AD4N_35 (io), B1 IO_L1P_T0_AD4P_35 (io), B2 IO_L2N_T0_AD12N_35 (io), C1 VCCO_35 (power), C2 IO_L2P_T0_AD12P_35 (io), D1 IO_L3N_T0_DQS_AD5N_35 (io), D2 IO_L4N_T0_35 (io), E1 IO_L3P_T0_DQS_AD5P_35 (io), E2 IO_L4P_T0_35 (io), E3 IO_L6N_T0_VREF_35 (io), F1 IO_L5N_T0_AD13N_35 (io), F2 VCCO_35 (power), F3 IO_L6P_T0_35 (io), F4 IO_0_35 (io), G1 IO_L5P_T0_AD13P_35 (io), G2 IO_L8N_T1_AD14N_35 (io), G3 IO_L11N_T1_SRCC_35 (io), G4 IO_L12N_T1_MRCC_35 (io), H2 IO_L8P_T1_AD14P_35 (io), H3 IO_L11P_T1_SRCC_35 (io), H4 IO_L12P_T1_MRCC_35 (io), H5 IO_L10N_T1_AD15N_35 (io), H6 VCCO_35 (power), J1 IO_L7N_T1_AD6N_35 (io), J2 IO_L9N_T1_DQS_AD7N_35 (io), J3 VCCO_35 (power), J4 IO_L13N_T2_MRCC_35 (io), J5 IO_L10P_T1_AD15P_35 (io), J6 IO_L17N_T2_35 (io), K1 IO_L7P_T1_AD6P_35 (io), K2 IO_L9P_T1_DQS_AD7P_35 (io), K3 IO_L14N_T2_SRCC_35 (io), K4 IO_L13P_T2_MRCC_35 (io), K6 IO_L17P_T2_35 (io), L1 IO_L15N_T2_DQS_35 (io), L3 IO_L14P_T2_SRCC_35 (io), L4 IO_L18N_T2_35 (io), L5 IO_L18P_T2_35 (io), L6 IO_25_35 (io), M1 IO_L15P_T2_DQS_35 (io), M2 IO_L16N_T2_35 (io), M3 IO_L16P_T2_35 (io), M4 VCCO_35 (power), M5 IO_L23N_T3_35 (io), M6 IO_L23P_T3_35 (io), N1 VCCO_35 (power), N2 IO_L22N_T3_35 (io), N3 IO_L19N_T3_VREF_35 (io), N4 IO_L19P_T3_35 (io), N5 IO_L24N_T3_35 (io), P1 IO_L20N_T3_35 (io), P2 IO_L22P_T3_35 (io), P4 IO_L21N_T3_DQS_35 (io), P5 IO_L21P_T3_DQS_35 (io), P6 IO_L24P_T3_35 (io), R1 IO_L20P_T3_35 (io)
part H pins: A4 MGTPTXN0_216 (out), A6 MGTPTXN2_216 (out), A8 MGTPRXN0_216 (in), A10 MGTPRXN2_216 (in), B4 MGTPTXP0_216 (out), B6 MGTPTXP2_216 (out), B8 MGTPRXP0_216 (in), B10 MGTPRXP2_216 (in), C5 MGTPTXN1_216 (out), C7 MGTPTXN3_216 (out), C9 MGTPRXN3_216 (in), C11 MGTPRXN1_216 (in), D5 MGTPTXP1_216 (out), D7 MGTPTXP3_216 (out), D9 MGTPRXP3_216 (in), D11 MGTPRXP1_216 (in), E6 MGTREFCLK0N_216 (in), E10 MGTREFCLK1N_216 (in), F6 MGTREFCLK0P_216 (in), F8 MGTRREF_216 (in), F10 MGTREFCLK1P_216 (in)
part I pins: B5 MGTAVTT (power), B7 MGTAVTT (power), B9 MGTAVTT (power), B11 MGTAVTT (power), C4 MGTAVTT (power), C8 MGTAVTT (power), D6 MGTAVCC (power), D10 MGTAVCC (power), E8 MGTAVCC (power), F7 MGTAVCC (power), F9 MGTAVCC (power), H8 VCCINT (power), H10 VCCINT (power), H12 VCCAUX (power), J7 VCCINT (power), J9 VCCINT (power), J11 VCCBRAM (power), K8 VCCINT (power), K12 VCCAUX (power), L7 VCCINT (power), L11 VCCBRAM (power), M8 VCCINT (power), M12 VCCAUX (power), N7 VCCINT (power), N11 VCCBRAM (power), P8 VCCINT (power), P10 VCCINT (power), P12 VCCAUX (power), R7 VCCINT (power), R9 VCCINT (power), R11 VCCAUX (power), T8 VCCINT (power), T10 VCCINT (power)
part J pins: A2 GND (power), A3 GND (power), A5 GND (power), A7 GND (power), A9 GND (power), A11 GND (power), A12 GND (power), A22 GND (power), AA2 GND (power), AA12 GND (power), AA22 GND (power), AB9 GND (power), AB19 GND (power), B3 GND (power), B12 GND (power), B19 GND (power), C3 GND (power), C6 GND (power), C10 GND (power), C12 GND (power), C16 GND (power), D3 GND (power), D4 GND (power), D8 GND (power), D12 GND (power), D13 GND (power), E4 GND (power), E5 GND (power), E7 GND (power), E9 GND (power), E11 GND (power), E20 GND (power), F5 GND (power), F11 GND (power), F17 GND (power), G5 GND (power), G6 GND (power), G7 GND (power), G8 GND (power), G9 GND (power), G10 GND (power), G12 GND (power), G14 GND (power), H1 GND (power), H7 GND (power), H9 GND (power), H11 GND (power), H21 GND (power), J8 GND (power), J10 GND (power), J12 GND (power), J18 GND (power), K5 GND (power), K7 GND (power), K11 GND (power), K15 GND (power), L2 GND (power), L8 GND (power), L22 GND (power), M7 GND (power), M11 GND (power), M19 GND (power), N6 GND (power), N8 GND (power), N16 GND (power), P3 GND (power), P7 GND (power), P9 GND (power), P11 GND (power), P13 GND (power), R8 GND (power), R10 GND (power), R12 GND (power), R20 GND (power), T7 GND (power), T9 GND (power), T11 GND (power), T17 GND (power), U4 GND (power), U14 GND (power), V1 GND (power), V11 GND (power), V21 GND (power), W8 GND (power), W18 GND (power), Y5 GND (power), Y15 GND (power)
part B text: BANK13
part C text: BANK14
part D text: BANK15
part E text: BANK16
part F text: BANK34
part G text: BANK35
part H text: BANK216
part I text: PWR/VCC

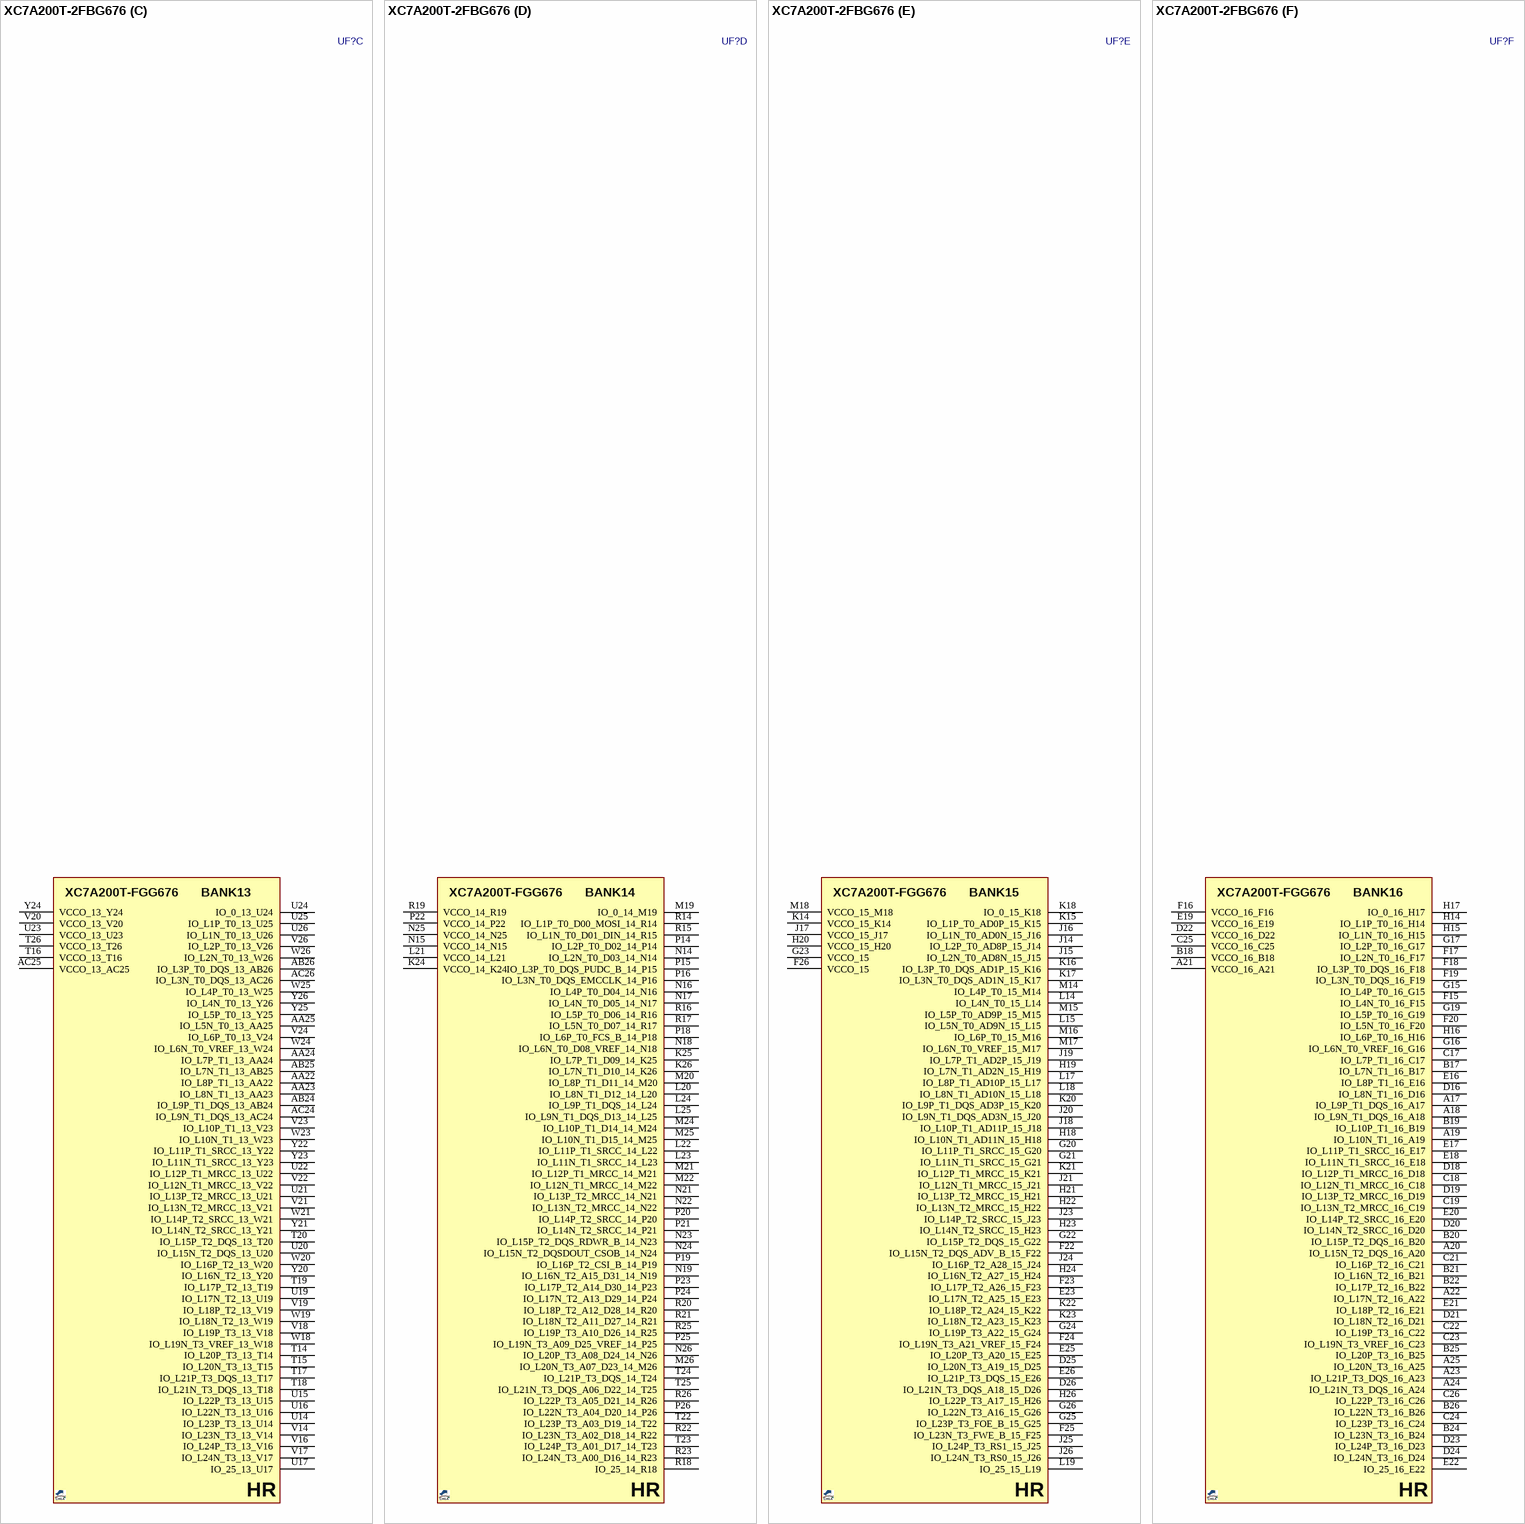
[diagram p12: symbol XC7A200T-2FBG676]

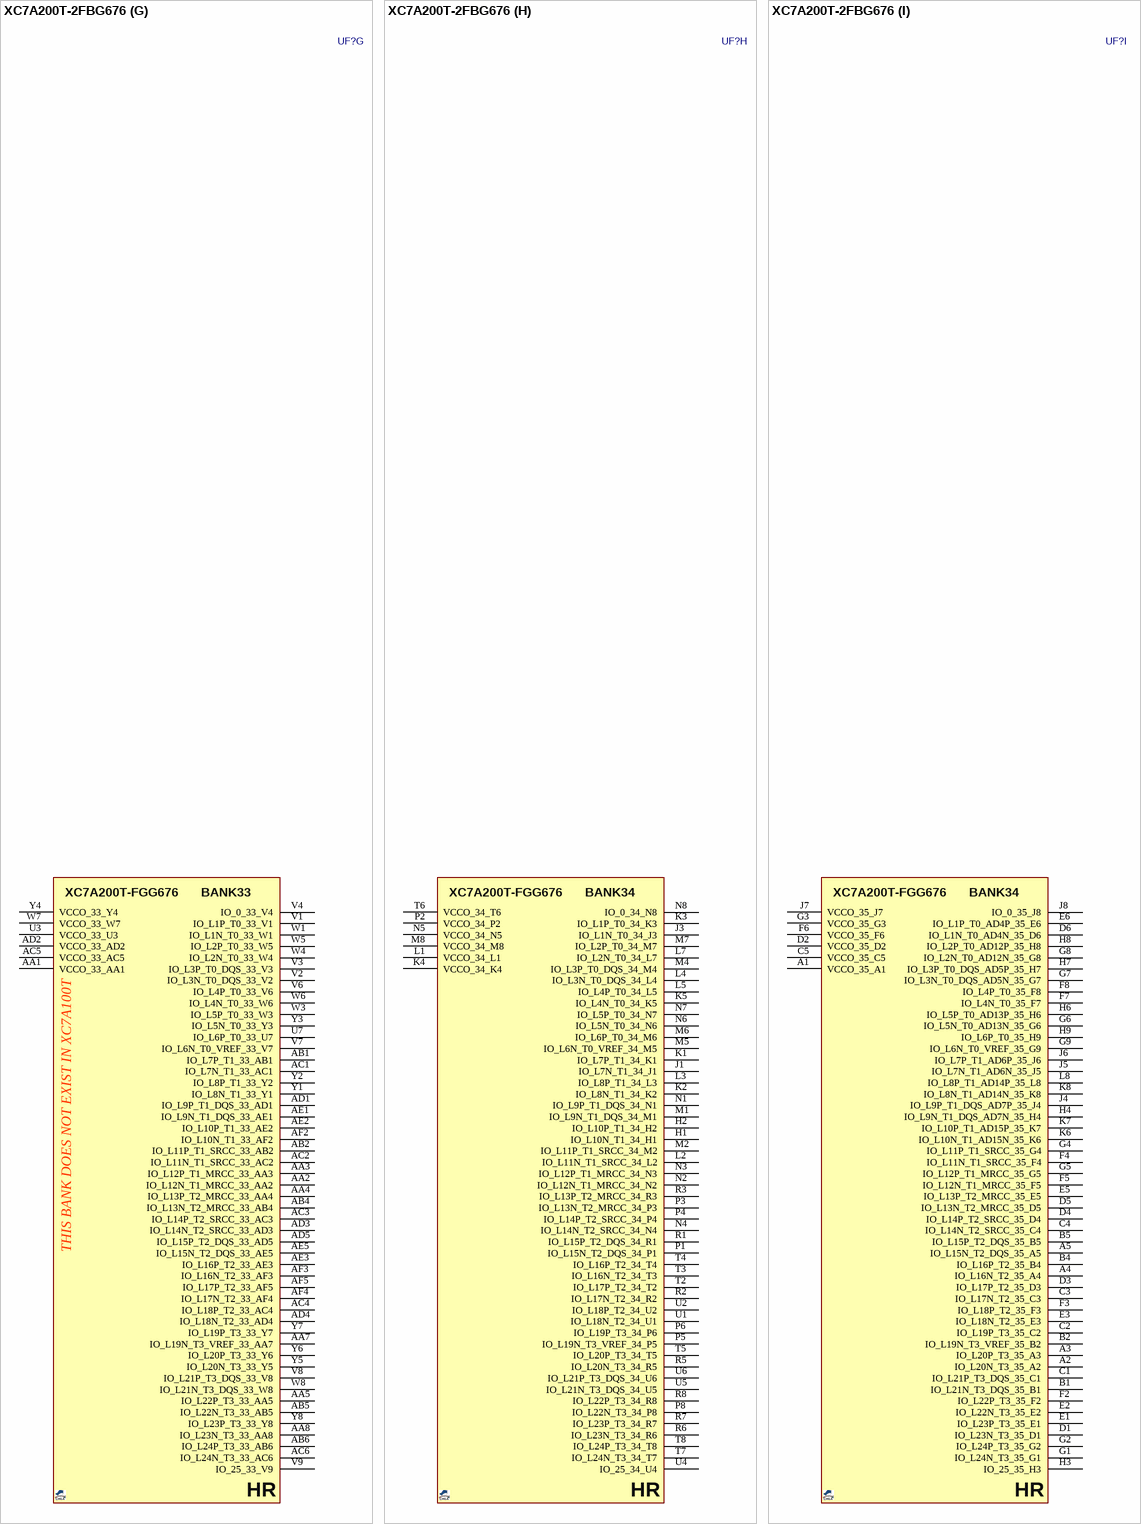
[diagram p13: symbol XC7A200T-2FBG676]

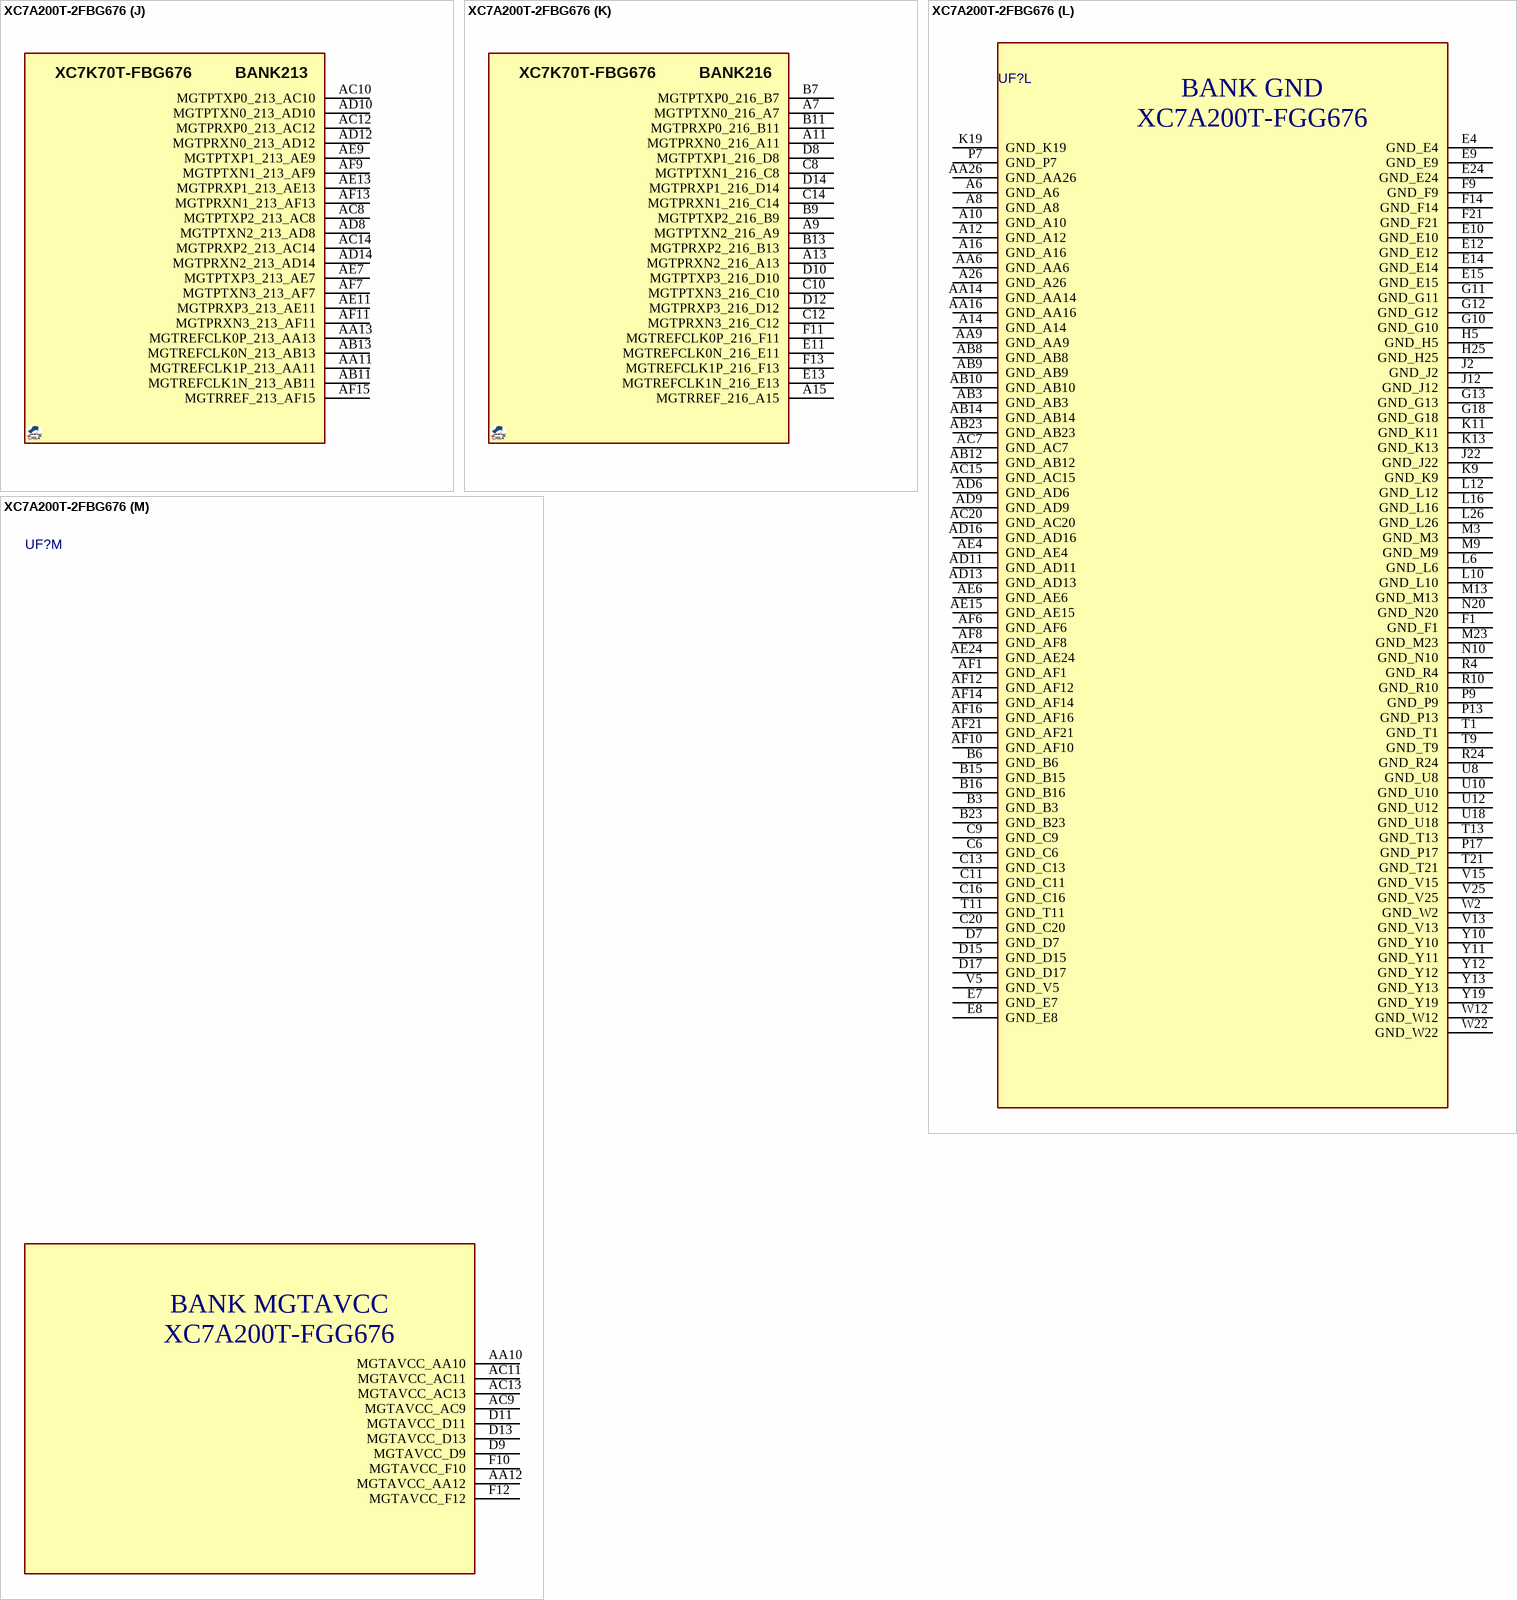
[diagram p14: symbol XC7A200T-2FBG676]

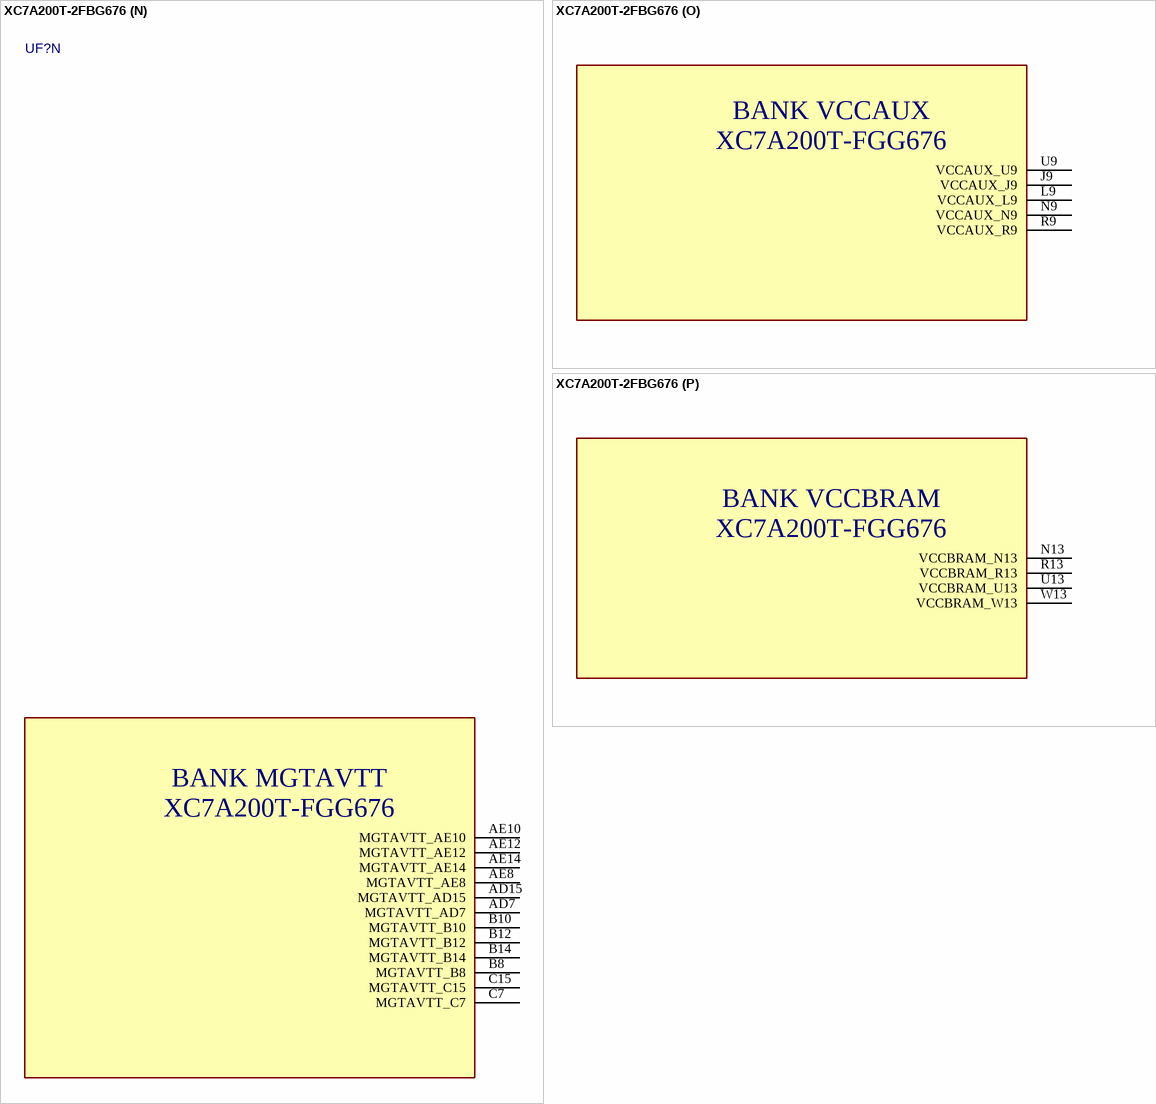
[diagram p15: symbol XC7A200T-2FBG676]

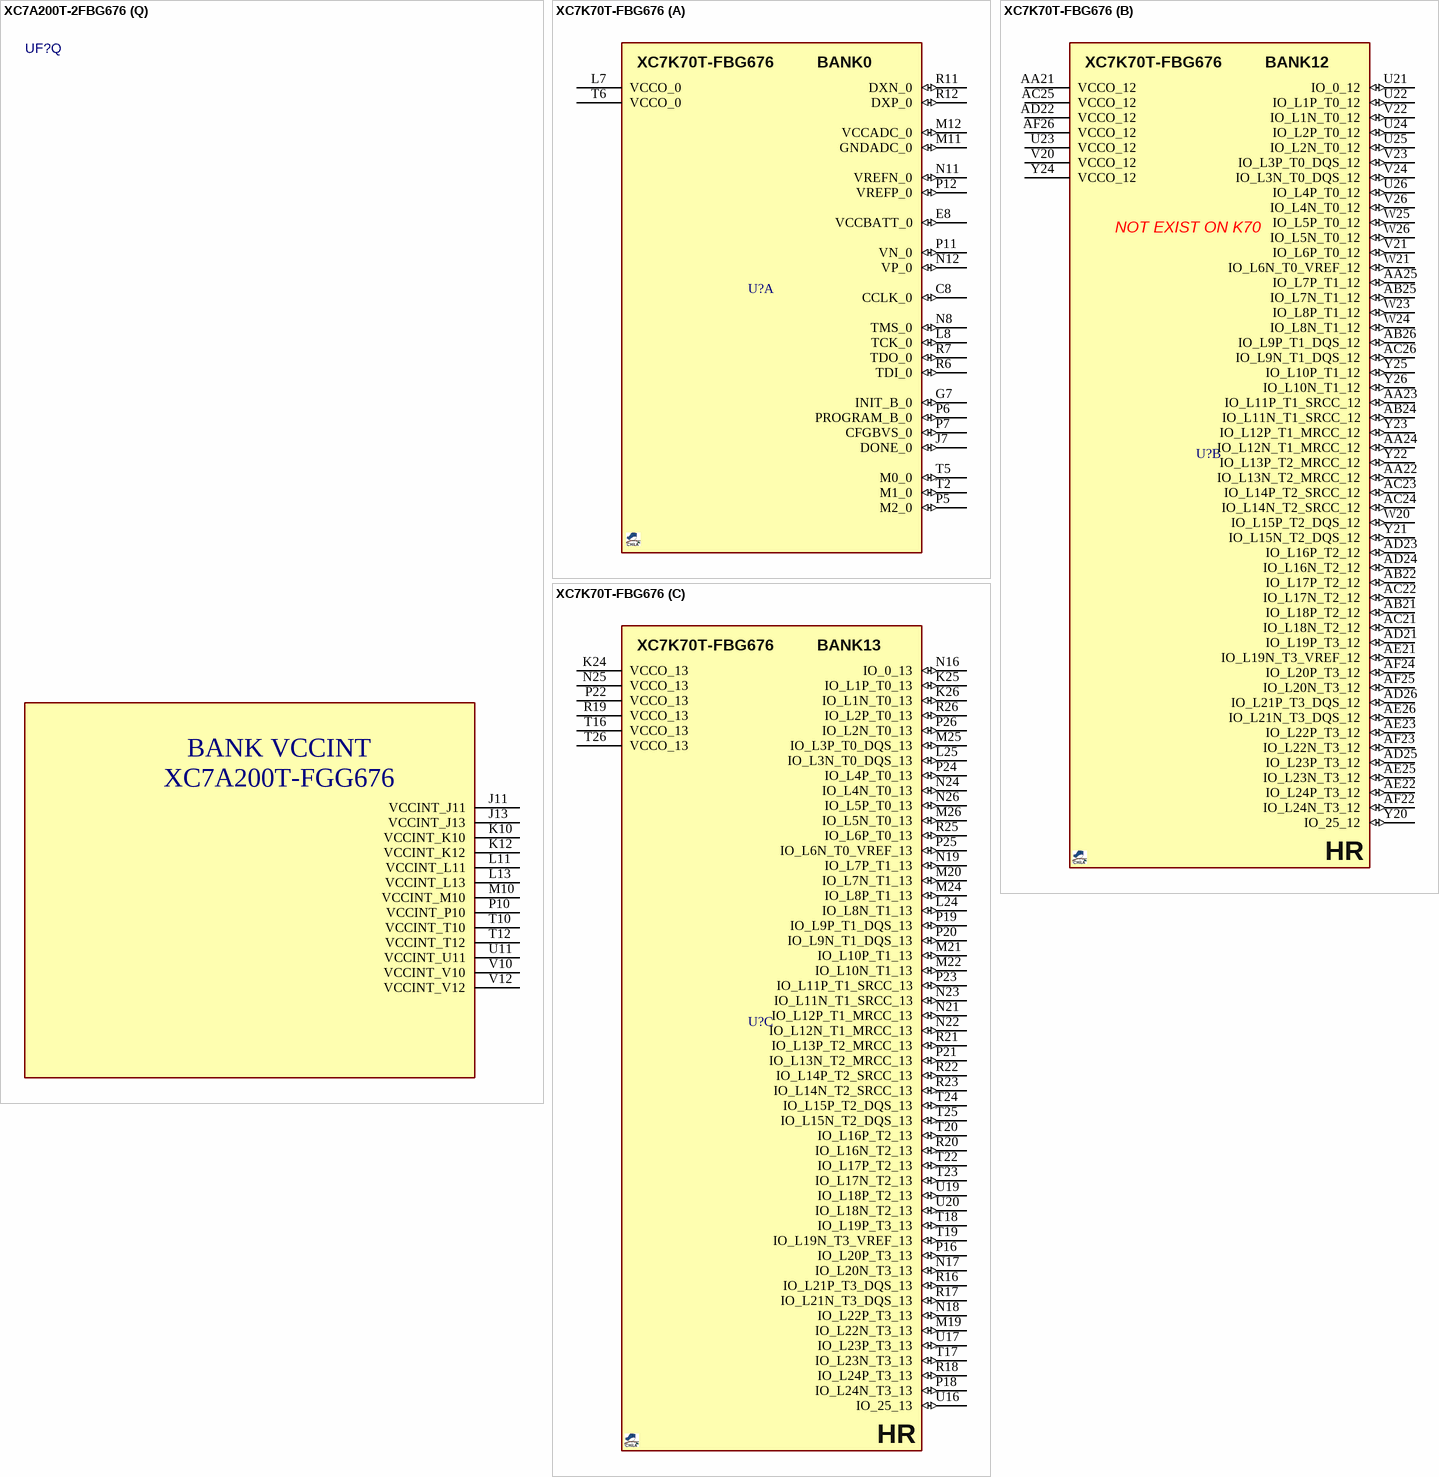
[diagram p16: symbols XC7A200T-2FBG676 to XC7K70T-FBG676]

## XC7A200T-2FBG676
designator UF?, comment XC7A200T  (value not drawn)
Artix-7 A200T; MANF: XILINX; DESC: DESCRIPTION; MANF_P#: XC7A200T-2FBG676; ASSEMBLY: ASSEMBLY; PARAM: PARAM; PRICE: PRICE; VALUE: XC7A200T
footprint BGA100_676_S27 (BGA, 676-Leads, Body 27.0x27.0mm,  Pitch 1.00mm)
part A pins: AB7 M0_0_AB7, AB15 CFGBVS_0_AB15, AE16 PROGRAM_B_0_AE16, G14 VCCBATT_0_G14, H10 TDI_0_H10, H11 TMS_0_H11, H12 TCK_0_H12, H13 CCLK_0_H13, J10 TDO_0_J10, M11 GNDADC_0_M11, M12 VCCADC_0_M12, N11 VREFN_0_N11, N12 VP_0_N12, P11 VN_0_P11, P12 VREFP_0_P12, R11 DXN_0_R11, R12 DXP_0_R12, V11 INIT_B_0_V11, W9 M2_0_W9, W10 DONE_0_W10, W11 VCCO_0_W11, Y9 M1_0_Y9, Y14 VCCO_0_Y14
part B pins: AA15 IO_L23N_T3_12_AA15, AA17 IO_L19P_T3_12_AA17, AA18 IO_L17N_T2_12_AA18, AA19 IO_L13P_T2_MRCC_12_AA19, AA20 IO_L12P_T1_MRCC_12_AA20, AA21 VCCO_12_AA21, AB16 IO_L22P_T3_12_AB16, AB17 IO_L19N_T3_VREF_12_AB17, AB18 VCCO_12_AB18, AB19 IO_L13N_T2_MRCC_12_AB19, AB20 IO_L12N_T1_MRCC_12_AB20, AB21 IO_L11P_T1_SRCC_12_AB21, AB22 IO_0_12_AB22, AC16 IO_L22N_T3_12_AC16, AC17 IO_L20P_T3_12_AC17, AC18 IO_L15P_T2_DQS_12_AC18, AC19 IO_L14P_T2_SRCC_12_AC19, AC21 IO_L11N_T1_SRCC_12_AC21, AC22 IO_L2P_T0_12_AC22, AC23 IO_L2N_T0_12_AC23, AD17 IO_L20N_T3_12_AD17, AD18 IO_L15N_T2_DQS_12_AD18, AD19 IO_L14N_T2_SRCC_12_AD19, AD20 IO_L10P_T1_12_AD20, AD21 IO_L7P_T1_12_AD21, AD22 VCCO_12_AD22, AD23 IO_L6P_T0_12_AD23, AD24 IO_L6N_T0_VREF_12_AD24, AD25 IO_L4P_T0_12_AD25, AD26 IO_L4N_T0_12_AD26, AE17 IO_L18P_T2_12_AE17, AE18 IO_L16P_T2_12_AE18, AE19 VCCO_12_AE19, AE20 IO_L10N_T1_12_AE20, AE21 IO_L7N_T1_12_AE21, AE22 IO_L9P_T1_DQS_12_AE22, AE23 IO_L5P_T0_12_AE23, AE25 IO_L1P_T0_12_AE25, AE26 IO_L1N_T0_12_AE26, AF17 IO_L18N_T2_12_AF17, AF18 IO_L16N_T2_12_AF18, AF19 IO_L8P_T1_12_AF19, AF20 IO_L8N_T1_12_AF20, AF22 IO_L9N_T1_DQS_12_AF22, AF23 IO_L5N_T0_12_AF23, AF24 IO_L3P_T0_DQS_12_AF24, AF25 IO_L3N_T0_DQS_12_AF25, AF26 VCCO_12_AF26, W14 IO_L24P_T3_12_W14, W15 IO_L24N_T3_12_W15, W16 IO_25_12_W16, W17 VCCO_12_W17, Y15 IO_L23P_T3_12_Y15, Y16 IO_L21P_T3_DQS_12_Y16, Y17 IO_L21N_T3_DQS_12_Y17, Y18 IO_L17P_T2_12_Y18
part C pins: AA22 IO_L8P_T1_13_AA22, AA23 IO_L8N_T1_13_AA23, AA24 IO_L7P_T1_13_AA24, AA25 IO_L5N_T0_13_AA25, AB24 IO_L9P_T1_DQS_13_AB24, AB25 IO_L7N_T1_13_AB25, AB26 IO_L3P_T0_DQS_13_AB26, AC24 IO_L9N_T1_DQS_13_AC24, AC25 VCCO_13_AC25, AC26 IO_L3N_T0_DQS_13_AC26, T14 IO_L20P_T3_13_T14, T15 IO_L20N_T3_13_T15, T16 VCCO_13_T16, T17 IO_L21P_T3_DQS_13_T17, T18 IO_L21N_T3_DQS_13_T18, T19 IO_L17P_T2_13_T19, T20 IO_L15P_T2_DQS_13_T20, T26 VCCO_13_T26, U14 IO_L23P_T3_13_U14, U15 IO_L22P_T3_13_U15, U16 IO_L22N_T3_13_U16, U17 IO_25_13_U17, U19 IO_L17N_T2_13_U19, U20 IO_L15N_T2_DQS_13_U20, U21 IO_L13P_T2_MRCC_13_U21, U22 IO_L12P_T1_MRCC_13_U22, U23 VCCO_13_U23, U24 IO_0_13_U24, U25 IO_L1P_T0_13_U25, U26 IO_L1N_T0_13_U26, V14 IO_L23N_T3_13_V14, V16 IO_L24P_T3_13_V16, V17 IO_L24N_T3_13_V17, V18 IO_L19P_T3_13_V18, V19 IO_L18P_T2_13_V19, V20 VCCO_13_V20, V21 IO_L13N_T2_MRCC_13_V21, V22 IO_L12N_T1_MRCC_13_V22, V23 IO_L10P_T1_13_V23, V24 IO_L6P_T0_13_V24, V26 IO_L2P_T0_13_V26, W18 IO_L19N_T3_VREF_13_W18, W19 IO_L18N_T2_13_W19, W20 IO_L16P_T2_13_W20, W21 IO_L14P_T2_SRCC_13_W21, W23 IO_L10N_T1_13_W23, W24 IO_L6N_T0_VREF_13_W24, W25 IO_L4P_T0_13_W25, W26 IO_L2N_T0_13_W26, Y20 IO_L16N_T2_13_Y20, Y21 IO_L14N_T2_SRCC_13_Y21, Y22 IO_L11P_T1_SRCC_13_Y22, Y23 IO_L11N_T1_SRCC_13_Y23, Y24 VCCO_13_Y24, Y25 IO_L5P_T0_13_Y25, Y26 IO_L4N_T0_13_Y26
part D pins: K24 VCCO_14_K24, K25 IO_L7P_T1_D09_14_K25, K26 IO_L7N_T1_D10_14_K26, L20 IO_L8N_T1_D12_14_L20, L21 VCCO_14_L21, L22 IO_L11P_T1_SRCC_14_L22, L23 IO_L11N_T1_SRCC_14_L23, L24 IO_L9P_T1_DQS_14_L24, L25 IO_L9N_T1_DQS_D13_14_L25, M19 IO_0_14_M19, M20 IO_L8P_T1_D11_14_M20, M21 IO_L12P_T1_MRCC_14_M21, M22 IO_L12N_T1_MRCC_14_M22, M24 IO_L10P_T1_D14_14_M24, M25 IO_L10N_T1_D15_14_M25, M26 IO_L20N_T3_A07_D23_14_M26, N14 IO_L2N_T0_D03_14_N14, N15 VCCO_14_N15, N16 IO_L4P_T0_D04_14_N16, N17 IO_L4N_T0_D05_14_N17, N18 IO_L6N_T0_D08_VREF_14_N18, N19 IO_L16N_T2_A15_D31_14_N19, N21 IO_L13P_T2_MRCC_14_N21, N22 IO_L13N_T2_MRCC_14_N22, N23 IO_L15P_T2_DQS_RDWR_B_14_N23, N24 IO_L15N_T2_DQSDOUT_CSOB_14_N24, N25 VCCO_14_N25, N26 IO_L20P_T3_A08_D24_14_N26, P14 IO_L2P_T0_D02_14_P14, P15 IO_L3P_T0_DQS_PUDC_B_14_P15, P16 IO_L3N_T0_DQS_EMCCLK_14_P16, P18 IO_L6P_T0_FCS_B_14_P18, P19 IO_L16P_T2_CSI_B_14_P19, P20 IO_L14P_T2_SRCC_14_P20, P21 IO_L14N_T2_SRCC_14_P21, P22 VCCO_14_P22, P23 IO_L17P_T2_A14_D30_14_P23, P24 IO_L17N_T2_A13_D29_14_P24, P25 IO_L19N_T3_A09_D25_VREF_14_P25, P26 IO_L22N_T3_A04_D20_14_P26, R14 IO_L1P_T0_D00_MOSI_14_R14, R15 IO_L1N_T0_D01_DIN_14_R15, R16 IO_L5P_T0_D06_14_R16, R17 IO_L5N_T0_D07_14_R17, R18 IO_25_14_R18, R19 VCCO_14_R19, R20 IO_L18P_T2_A12_D28_14_R20, R21 IO_L18N_T2_A11_D27_14_R21, R22 IO_L23N_T3_A02_D18_14_R22, R23 IO_L24N_T3_A00_D16_14_R23, R25 IO_L19P_T3_A10_D26_14_R25, R26 IO_L22P_T3_A05_D21_14_R26, T22 IO_L23P_T3_A03_D19_14_T22, T23 IO_L24P_T3_A01_D17_14_T23, T24 IO_L21P_T3_DQS_14_T24, T25 IO_L21N_T3_DQS_A06_D22_14_T25
part E pins: D25 IO_L20N_T3_A19_15_D25, D26 IO_L21N_T3_DQS_A18_15_D26, E23 IO_L17N_T2_A25_15_E23, E25 IO_L20P_T3_A20_15_E25, E26 IO_L21P_T3_DQS_15_E26, F22 IO_L15N_T2_DQS_ADV_B_15_F22, F23 IO_L17P_T2_A26_15_F23, F24 IO_L19N_T3_A21_VREF_15_F24, F25 IO_L23N_T3_FWE_B_15_F25, F26 VCCO_15, G20 IO_L11P_T1_SRCC_15_G20, G21 IO_L11N_T1_SRCC_15_G21, G22 IO_L15P_T2_DQS_15_G22, G23 VCCO_15, G24 IO_L19P_T3_A22_15_G24, G25 IO_L23P_T3_FOE_B_15_G25, G26 IO_L22N_T3_A16_15_G26, H18 IO_L10N_T1_AD11N_15_H18, H19 IO_L7N_T1_AD2N_15_H19, H20 VCCO_15_H20, H21 IO_L13P_T2_MRCC_15_H21, H22 IO_L13N_T2_MRCC_15_H22, H23 IO_L14N_T2_SRCC_15_H23, H24 IO_L16N_T2_A27_15_H24, H26 IO_L22P_T3_A17_15_H26, J14 IO_L2P_T0_AD8P_15_J14, J15 IO_L2N_T0_AD8N_15_J15, J16 IO_L1N_T0_AD0N_15_J16, J17 VCCO_15_J17, J18 IO_L10P_T1_AD11P_15_J18, J19 IO_L7P_T1_AD2P_15_J19, J20 IO_L9N_T1_DQS_AD3N_15_J20, J21 IO_L12N_T1_MRCC_15_J21, J23 IO_L14P_T2_SRCC_15_J23, J24 IO_L16P_T2_A28_15_J24, J25 IO_L24P_T3_RS1_15_J25, J26 IO_L24N_T3_RS0_15_J26, K14 VCCO_15_K14, K15 IO_L1P_T0_AD0P_15_K15, K16 IO_L3P_T0_DQS_AD1P_15_K16, K17 IO_L3N_T0_DQS_AD1N_15_K17, K18 IO_0_15_K18, K20 IO_L9P_T1_DQS_AD3P_15_K20, K21 IO_L12P_T1_MRCC_15_K21, K22 IO_L18P_T2_A24_15_K22, K23 IO_L18N_T2_A23_15_K23, L14 IO_L4N_T0_15_L14, L15 IO_L5N_T0_AD9N_15_L15, L17 IO_L8P_T1_AD10P_15_L17, L18 IO_L8N_T1_AD10N_15_L18, L19 IO_25_15_L19, M14 IO_L4P_T0_15_M14, M15 IO_L5P_T0_AD9P_15_M15, M16 IO_L6P_T0_15_M16, M17 IO_L6N_T0_VREF_15_M17, M18 VCCO_15_M18
part F pins: A17 IO_L9P_T1_DQS_16_A17, A18 IO_L9N_T1_DQS_16_A18, A19 IO_L10N_T1_16_A19, A20 IO_L15N_T2_DQS_16_A20, A21 VCCO_16_A21, A22 IO_L17N_T2_16_A22, A23 IO_L21P_T3_DQS_16_A23, A24 IO_L21N_T3_DQS_16_A24, A25 IO_L20N_T3_16_A25, B17 IO_L7N_T1_16_B17, B18 VCCO_16_B18, B19 IO_L10P_T1_16_B19, B20 IO_L15P_T2_DQS_16_B20, B21 IO_L16N_T2_16_B21, B22 IO_L17P_T2_16_B22, B24 IO_L23N_T3_16_B24, B25 IO_L20P_T3_16_B25, B26 IO_L22N_T3_16_B26, C17 IO_L7P_T1_16_C17, C18 IO_L12N_T1_MRCC_16_C18, C19 IO_L13N_T2_MRCC_16_C19, C21 IO_L16P_T2_16_C21, C22 IO_L19P_T3_16_C22, C23 IO_L19N_T3_VREF_16_C23, C24 IO_L23P_T3_16_C24, C25 VCCO_16_C25, C26 IO_L22P_T3_16_C26, D16 IO_L8N_T1_16_D16, D18 IO_L12P_T1_MRCC_16_D18, D19 IO_L13P_T2_MRCC_16_D19, D20 IO_L14N_T2_SRCC_16_D20, D21 IO_L18N_T2_16_D21, D22 VCCO_16_D22, D23 IO_L24P_T3_16_D23, D24 IO_L24N_T3_16_D24, E16 IO_L8P_T1_16_E16, E17 IO_L11P_T1_SRCC_16_E17, E18 IO_L11N_T1_SRCC_16_E18, E19 VCCO_16_E19, E20 IO_L14P_T2_SRCC_16_E20, E21 IO_L18P_T2_16_E21, E22 IO_25_16_E22, F15 IO_L4N_T0_16_F15, F16 VCCO_16_F16, F17 IO_L2N_T0_16_F17, F18 IO_L3P_T0_DQS_16_F18, F19 IO_L3N_T0_DQS_16_F19, F20 IO_L5N_T0_16_F20, G15 IO_L4P_T0_16_G15, G16 IO_L6N_T0_VREF_16_G16, G17 IO_L2P_T0_16_G17, G19 IO_L5P_T0_16_G19, H14 IO_L1P_T0_16_H14, H15 IO_L1N_T0_16_H15, H16 IO_L6P_T0_16_H16, H17 IO_0_16_H17
part G pins: AA1 VCCO_33_AA1, AA2 IO_L12N_T1_MRCC_33_AA2, AA3 IO_L12P_T1_MRCC_33_AA3, AA4 IO_L13P_T2_MRCC_33_AA4, AA5 IO_L22P_T3_33_AA5, AA7 IO_L19N_T3_VREF_33_AA7, AA8 IO_L23N_T3_33_AA8, AB1 IO_L7P_T1_33_AB1, AB2 IO_L11P_T1_SRCC_33_AB2, AB4 IO_L13N_T2_MRCC_33_AB4, AB5 IO_L22N_T3_33_AB5, AB6 IO_L24P_T3_33_AB6, AC1 IO_L7N_T1_33_AC1, AC2 IO_L11N_T1_SRCC_33_AC2, AC3 IO_L14P_T2_SRCC_33_AC3, AC4 IO_L18P_T2_33_AC4, AC5 VCCO_33_AC5, AC6 IO_L24N_T3_33_AC6, AD1 IO_L9P_T1_DQS_33_AD1, AD2 VCCO_33_AD2, AD3 IO_L14N_T2_SRCC_33_AD3, AD4 IO_L18N_T2_33_AD4, AD5 IO_L15P_T2_DQS_33_AD5, AE1 IO_L9N_T1_DQS_33_AE1, AE2 IO_L10P_T1_33_AE2, AE3 IO_L16P_T2_33_AE3, AE5 IO_L15N_T2_DQS_33_AE5, AF2 IO_L10N_T1_33_AF2, AF3 IO_L16N_T2_33_AF3, AF4 IO_L17N_T2_33_AF4, AF5 IO_L17P_T2_33_AF5, U3 VCCO_33_U3, U7 IO_L6P_T0_33_U7, V1 IO_L1P_T0_33_V1, V2 IO_L3N_T0_DQS_33_V2, V3 IO_L3P_T0_DQS_33_V3, V4 IO_0_33_V4, V6 IO_L4P_T0_33_V6, V7 IO_L6N_T0_VREF_33_V7, V8 IO_L21P_T3_DQS_33_V8, V9 IO_25_33_V9, W1 IO_L1N_T0_33_W1, W3 IO_L5P_T0_33_W3, W4 IO_L2N_T0_33_W4, W5 IO_L2P_T0_33_W5, W6 IO_L4N_T0_33_W6, W7 VCCO_33_W7, W8 IO_L21N_T3_DQS_33_W8, Y1 IO_L8N_T1_33_Y1, Y2 IO_L8P_T1_33_Y2, Y3 IO_L5N_T0_33_Y3, Y4 VCCO_33_Y4, Y5 IO_L20N_T3_33_Y5, Y6 IO_L20P_T3_33_Y6, Y7 IO_L19P_T3_33_Y7, Y8 IO_L23P_T3_33_Y8
part H pins: H1 IO_L10N_T1_34_H1, H2 IO_L10P_T1_34_H2, J1 IO_L7N_T1_34_J1, J3 IO_L1N_T0_34_J3, K1 IO_L7P_T1_34_K1, K2 IO_L8N_T1_34_K2, K3 IO_L1P_T0_34_K3, K4 VCCO_34_K4, K5 IO_L4N_T0_34_K5, L1 VCCO_34_L1, L2 IO_L11N_T1_SRCC_34_L2, L3 IO_L8P_T1_34_L3, L4 IO_L3N_T0_DQS_34_L4, L5 IO_L4P_T0_34_L5, L7 IO_L2N_T0_34_L7, M1 IO_L9N_T1_DQS_34_M1, M2 IO_L11P_T1_SRCC_34_M2, M4 IO_L3P_T0_DQS_34_M4, M5 IO_L6N_T0_VREF_34_M5, M6 IO_L6P_T0_34_M6, M7 IO_L2P_T0_34_M7, M8 VCCO_34_M8, N1 IO_L9P_T1_DQS_34_N1, N2 IO_L12N_T1_MRCC_34_N2, N3 IO_L12P_T1_MRCC_34_N3, N4 IO_L14N_T2_SRCC_34_N4, N5 VCCO_34_N5, N6 IO_L5N_T0_34_N6, N7 IO_L5P_T0_34_N7, N8 IO_0_34_N8, P1 IO_L15N_T2_DQS_34_P1, P2 VCCO_34_P2, P3 IO_L13N_T2_MRCC_34_P3, P4 IO_L14P_T2_SRCC_34_P4, P5 IO_L19N_T3_VREF_34_P5, P6 IO_L19P_T3_34_P6, P8 IO_L22N_T3_34_P8, R1 IO_L15P_T2_DQS_34_R1, R2 IO_L17N_T2_34_R2, R3 IO_L13P_T2_MRCC_34_R3, R5 IO_L20N_T3_34_R5, R6 IO_L23N_T3_34_R6, R7 IO_L23P_T3_34_R7, R8 IO_L22P_T3_34_R8, T2 IO_L17P_T2_34_T2, T3 IO_L16N_T2_34_T3, T4 IO_L16P_T2_34_T4, T5 IO_L20P_T3_34_T5, T6 VCCO_34_T6, T7 IO_L24N_T3_34_T7, T8 IO_L24P_T3_34_T8, U1 IO_L18N_T2_34_U1, U2 IO_L18P_T2_34_U2, U4 IO_25_34_U4, U5 IO_L21N_T3_DQS_34_U5, U6 IO_L21P_T3_DQS_34_U6
part I pins: A1 VCCO_35_A1, A2 IO_L20N_T3_35_A2, A3 IO_L20P_T3_35_A3, A4 IO_L16N_T2_35_A4, A5 IO_L15N_T2_DQS_35_A5, B1 IO_L21N_T3_DQS_35_B1, B2 IO_L19N_T3_VREF_35_B2, B4 IO_L16P_T2_35_B4, B5 IO_L15P_T2_DQS_35_B5, C1 IO_L21P_T3_DQS_35_C1, C2 IO_L19P_T3_35_C2, C3 IO_L17N_T2_35_C3, C4 IO_L14N_T2_SRCC_35_C4, C5 VCCO_35_C5, D1 IO_L23N_T3_35_D1, D2 VCCO_35_D2, D3 IO_L17P_T2_35_D3, D4 IO_L14P_T2_SRCC_35_D4, D5 IO_L13N_T2_MRCC_35_D5, D6 IO_L1N_T0_AD4N_35_D6, E1 IO_L23P_T3_35_E1, E2 IO_L22N_T3_35_E2, E3 IO_L18N_T2_35_E3, E5 IO_L13P_T2_MRCC_35_E5, E6 IO_L1P_T0_AD4P_35_E6, F2 IO_L22P_T3_35_F2, F3 IO_L18P_T2_35_F3, F4 IO_L11N_T1_SRCC_35_F4, F5 IO_L12N_T1_MRCC_35_F5, F6 VCCO_35_F6, F7 IO_L4N_T0_35_F7, F8 IO_L4P_T0_35_F8, G1 IO_L24N_T3_35_G1, G2 IO_L24P_T3_35_G2, G3 VCCO_35_G3, G4 IO_L11P_T1_SRCC_35_G4, G5 IO_L12P_T1_MRCC_35_G5, G6 IO_L5N_T0_AD13N_35_G6, G7 IO_L3N_T0_DQS_AD5N_35_G7, G8 IO_L2N_T0_AD12N_35_G8, G9 IO_L6N_T0_VREF_35_G9, H3 IO_25_35_H3, H4 IO_L9N_T1_DQS_AD7N_35_H4, H6 IO_L5P_T0_AD13P_35_H6, H7 IO_L3P_T0_DQS_AD5P_35_H7, H8 IO_L2P_T0_AD12P_35_H8, H9 IO_L6P_T0_35_H9, J4 IO_L9P_T1_DQS_AD7P_35_J4, J5 IO_L7N_T1_AD6N_35_J5, J6 IO_L7P_T1_AD6P_35_J6, J7 VCCO_35_J7, J8 IO_0_35_J8, K6 IO_L10N_T1_AD15N_35_K6, K7 IO_L10P_T1_AD15P_35_K7, K8 IO_L8N_T1_AD14N_35_K8, L8 IO_L8P_T1_AD14P_35_L8
part J pins: AA11 MGTREFCLK1P_213_AA11, AA13 MGTREFCLK0P_213_AA13, AB11 MGTREFCLK1N_213_AB11, AB13 MGTREFCLK0N_213_AB13, AC8 MGTPTXP2_213_AC8, AC10 MGTPTXP0_213_AC10, AC12 MGTPRXP0_213_AC12, AC14 MGTPRXP2_213_AC14, AD8 MGTPTXN2_213_AD8, AD10 MGTPTXN0_213_AD10, AD12 MGTPRXN0_213_AD12, AD14 MGTPRXN2_213_AD14, AE7 MGTPTXP3_213_AE7, AE9 MGTPTXP1_213_AE9, AE11 MGTPRXP3_213_AE11, AE13 MGTPRXP1_213_AE13, AF7 MGTPTXN3_213_AF7, AF9 MGTPTXN1_213_AF9, AF11 MGTPRXN3_213_AF11, AF13 MGTPRXN1_213_AF13, AF15 MGTRREF_213_AF15
part K pins: A7 MGTPTXN0_216_A7, A9 MGTPTXN2_216_A9, A11 MGTPRXN0_216_A11, A13 MGTPRXN2_216_A13, A15 MGTRREF_216_A15, B7 MGTPTXP0_216_B7, B9 MGTPTXP2_216_B9, B11 MGTPRXP0_216_B11, B13 MGTPRXP2_216_B13, C8 MGTPTXN1_216_C8, C10 MGTPTXN3_216_C10, C12 MGTPRXN3_216_C12, C14 MGTPRXN1_216_C14, D8 MGTPTXP1_216_D8, D10 MGTPTXP3_216_D10, D12 MGTPRXP3_216_D12, D14 MGTPRXP1_216_D14, E11 MGTREFCLK0N_216_E11, E13 MGTREFCLK1N_216_E13, F11 MGTREFCLK0P_216_F11, F13 MGTREFCLK1P_216_F13
part L pins: A6 GND_A6, A8 GND_A8, A10 GND_A10, A12 GND_A12, A14 GND_A14, A16 GND_A16, A26 GND_A26, AA6 GND_AA6, AA9 GND_AA9, AA14 GND_AA14, AA16 GND_AA16, AA26 GND_AA26, AB3 GND_AB3, AB8 GND_AB8, AB9 GND_AB9, AB10 GND_AB10, AB12 GND_AB12, AB14 GND_AB14, AB23 GND_AB23, AC7 GND_AC7, AC15 GND_AC15, AC20 GND_AC20, AD6 GND_AD6, AD9 GND_AD9, AD11 GND_AD11, AD13 GND_AD13, AD16 GND_AD16, AE4 GND_AE4, AE6 GND_AE6, AE15 GND_AE15, AE24 GND_AE24, AF1 GND_AF1, AF6 GND_AF6, AF8 GND_AF8, AF10 GND_AF10, AF12 GND_AF12, AF14 GND_AF14, AF16 GND_AF16, AF21 GND_AF21, B3 GND_B3, B6 GND_B6, B15 GND_B15, B16 GND_B16, B23 GND_B23, C6 GND_C6, C9 GND_C9, C11 GND_C11, C13 GND_C13, C16 GND_C16, C20 GND_C20, D7 GND_D7, D15 GND_D15, D17 GND_D17, E4 GND_E4, E7 GND_E7, E8 GND_E8, E9 GND_E9, E10 GND_E10, E12 GND_E12, E14 GND_E14, E15 GND_E15, E24 GND_E24, F1 GND_F1, F9 GND_F9, F14 GND_F14, F21 GND_F21, G10 GND_G10, G11 GND_G11, G12 GND_G12, G13 GND_G13, G18 GND_G18, H5 GND_H5, H25 GND_H25, J2 GND_J2, J12 GND_J12, J22 GND_J22, K9 GND_K9, K11 GND_K11, K13 GND_K13, K19 GND_K19, L6 GND_L6, L10 GND_L10, L12 GND_L12, L16 GND_L16, L26 GND_L26, M3 GND_M3, M9 GND_M9, M13 GND_M13, M23 GND_M23, N10 GND_N10, N20 GND_N20, P7 GND_P7, P9 GND_P9, P13 GND_P13, P17 GND_P17, R4 GND_R4, R10 GND_R10, R24 GND_R24, T1 GND_T1, T9 GND_T9, T11 GND_T11, T13 GND_T13, T21 GND_T21, U8 GND_U8, U10 GND_U10, U12 GND_U12, U18 GND_U18, V5 GND_V5, V13 GND_V13, V15 GND_V15, V25 GND_V25, W2 GND_W2, W12 GND_W12, W22 GND_W22, Y10 GND_Y10, Y11 GND_Y11, Y12 GND_Y12, Y13 GND_Y13, Y19 GND_Y19
part M pins: AA10 MGTAVCC_AA10, AA12 MGTAVCC_AA12, AC9 MGTAVCC_AC9, AC11 MGTAVCC_AC11, AC13 MGTAVCC_AC13, D9 MGTAVCC_D9, D11 MGTAVCC_D11, D13 MGTAVCC_D13, F10 MGTAVCC_F10, F12 MGTAVCC_F12
part N pins: AD7 MGTAVTT_AD7, AD15 MGTAVTT_AD15, AE8 MGTAVTT_AE8, AE10 MGTAVTT_AE10, AE12 MGTAVTT_AE12, AE14 MGTAVTT_AE14, B8 MGTAVTT_B8, B10 MGTAVTT_B10, B12 MGTAVTT_B12, B14 MGTAVTT_B14, C7 MGTAVTT_C7, C15 MGTAVTT_C15
part O pins: J9 VCCAUX_J9, L9 VCCAUX_L9, N9 VCCAUX_N9, R9 VCCAUX_R9, U9 VCCAUX_U9
part P pins: N13 VCCBRAM_N13, R13 VCCBRAM_R13, U13 VCCBRAM_U13, W13 VCCBRAM_W13
part Q pins: J11 VCCINT_J11, J13 VCCINT_J13, K10 VCCINT_K10, K12 VCCINT_K12, L11 VCCINT_L11, L13 VCCINT_L13, M10 VCCINT_M10, P10 VCCINT_P10, T10 VCCINT_T10, T12 VCCINT_T12, U11 VCCINT_U11, V10 VCCINT_V10, V12 VCCINT_V12
part A text: XC7A200T-FGG676; BANK0
part B text: XC7A200T-FGG676; BANK12; THIS BANK DOES NOT EXIST IN XC7A100T; HR
part C text: XC7A200T-FGG676; BANK13; HR
part D text: XC7A200T-FGG676; BANK14; HR
part E text: XC7A200T-FGG676; BANK15; HR
part F text: XC7A200T-FGG676; BANK16; HR
part G text: XC7A200T-FGG676; BANK33; THIS BANK DOES NOT EXIST IN XC7A100T; HR
part H text: XC7A200T-FGG676; BANK34; HR
part I text: XC7A200T-FGG676; BANK34; HR
part J text: XC7K70T-FBG676; BANK213
part K text: XC7K70T-FBG676; BANK216
part L text: BANK GND; XC7A200T-FGG676
part M text: BANK MGTAVCC; XC7A200T-FGG676
part N text: BANK MGTAVTT; XC7A200T-FGG676
part O text: BANK VCCAUX; XC7A200T-FGG676
part P text: BANK VCCBRAM; XC7A200T-FGG676
part Q text: BANK VCCINT; XC7A200T-FGG676

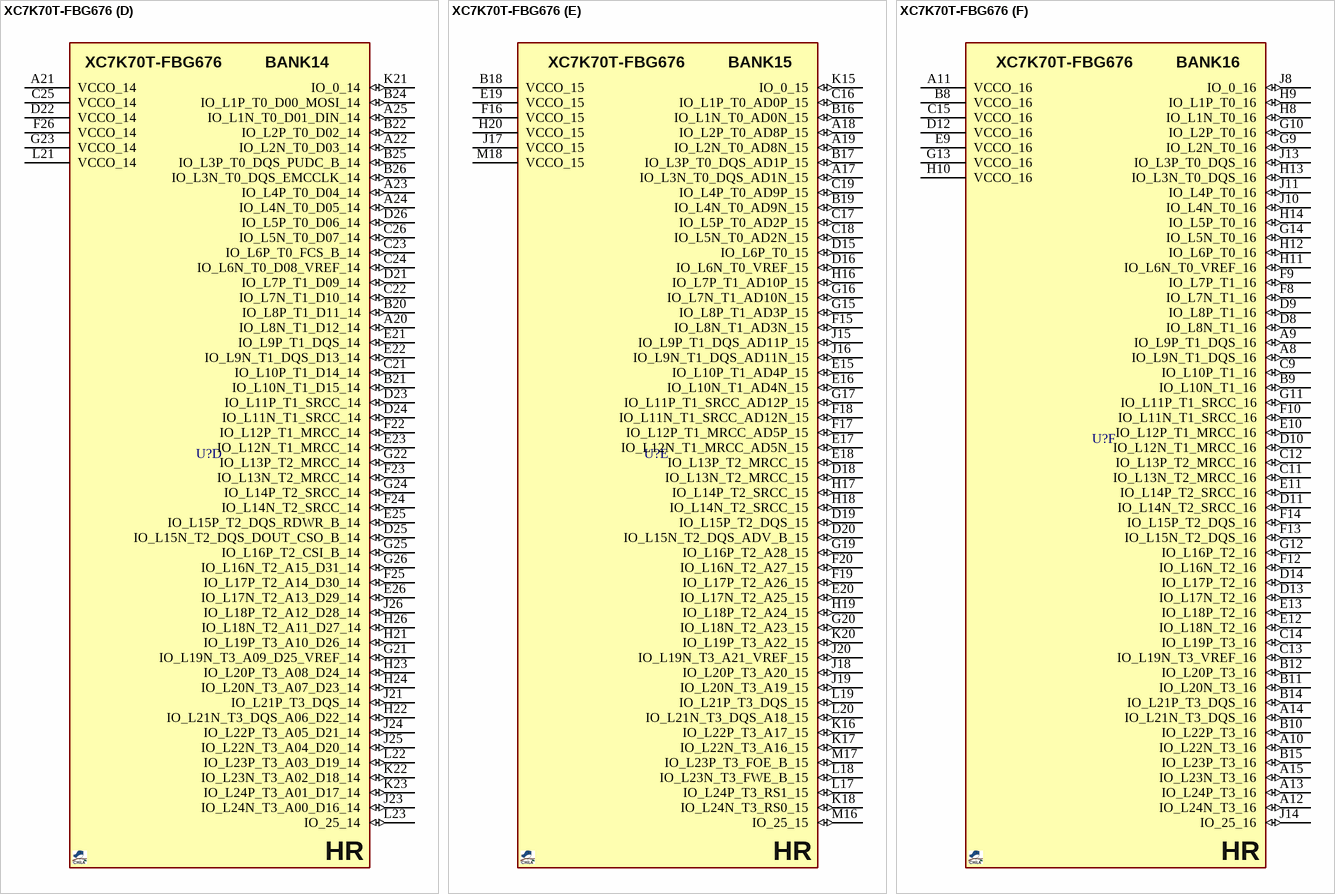
[diagram p17: symbol XC7K70T-FBG676]

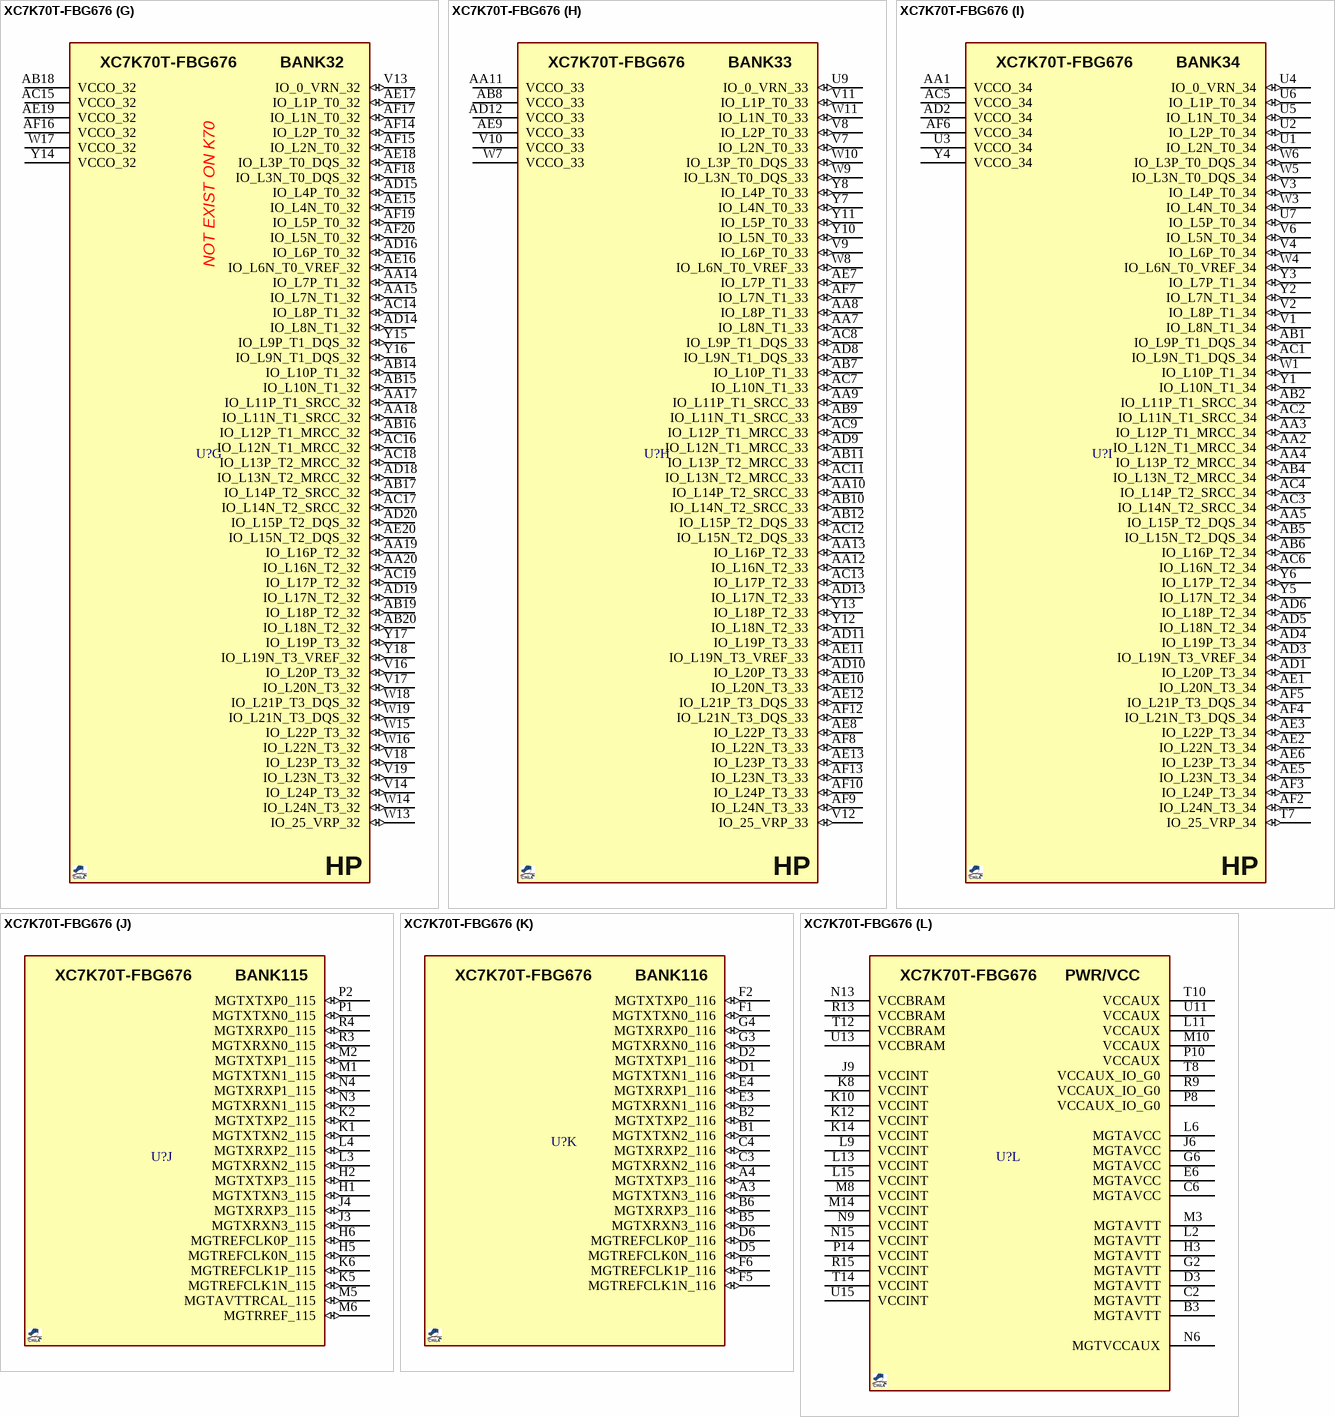
[diagram p18: symbol XC7K70T-FBG676]

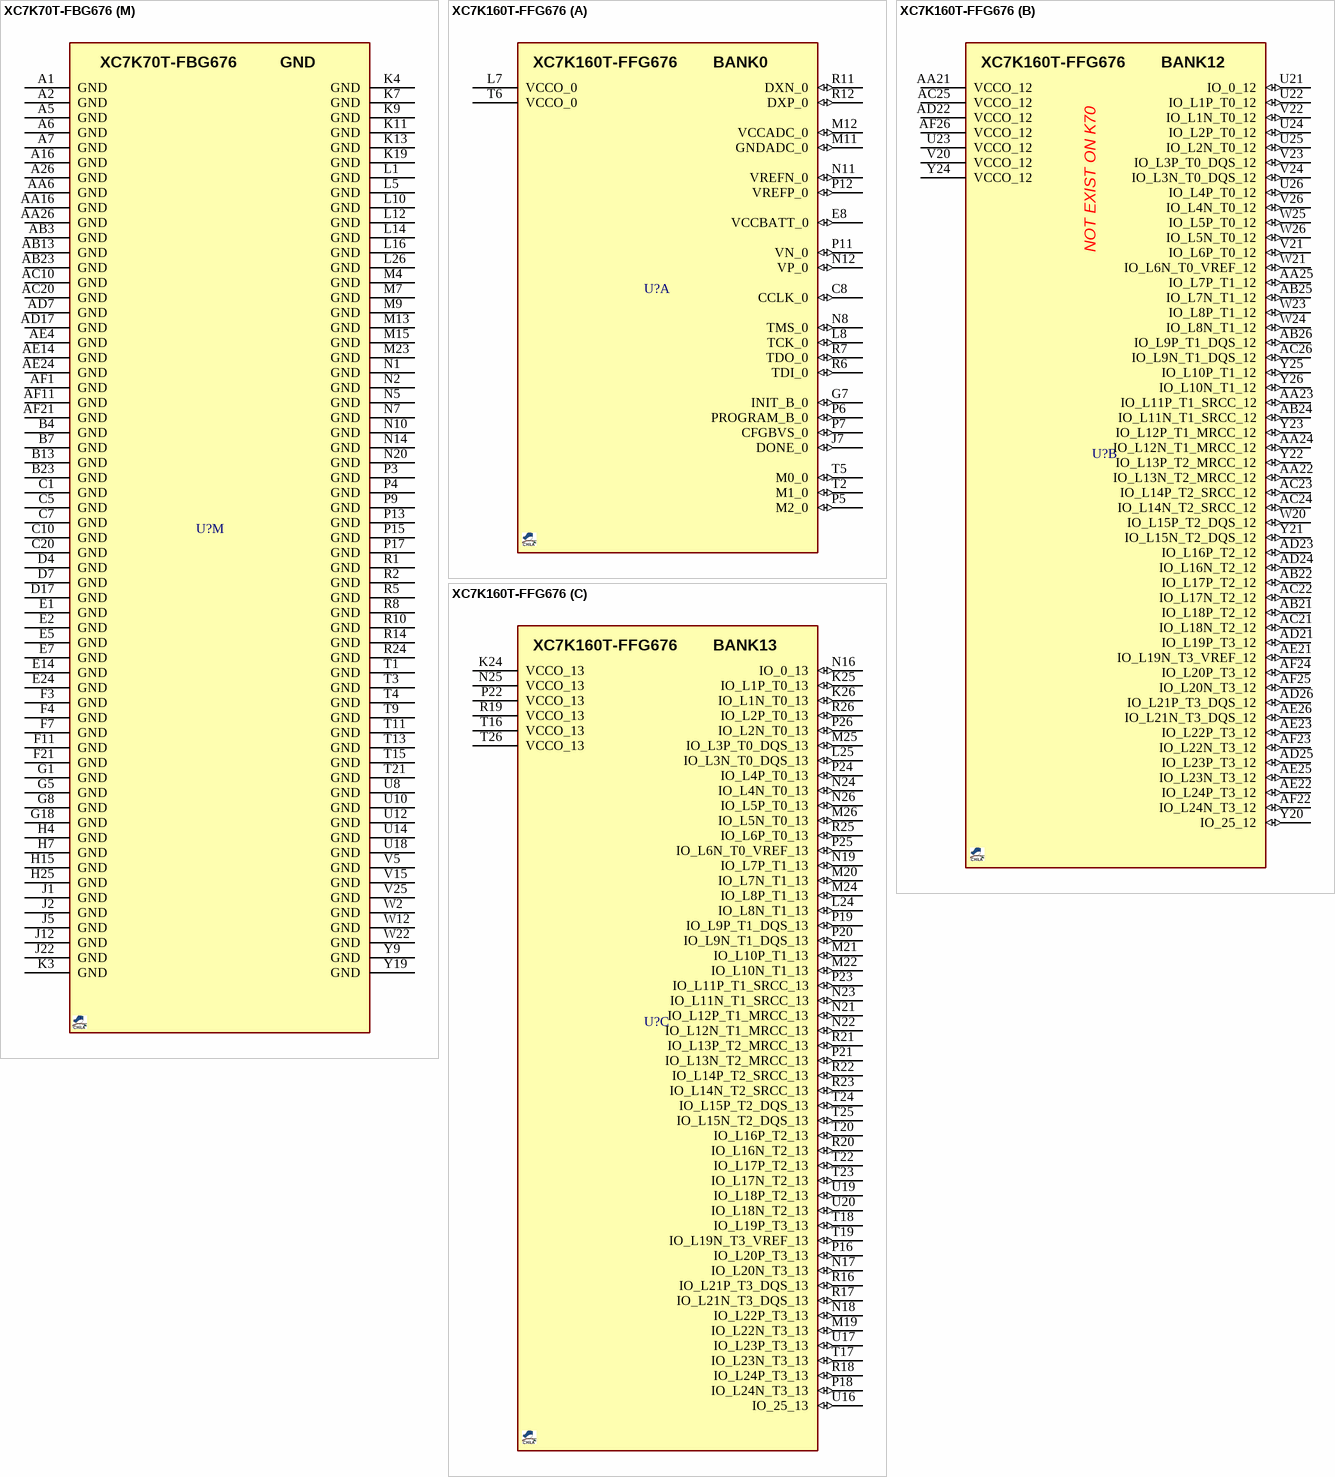
[diagram p19: symbols XC7K70T-FBG676 to XC7K160T-FFG676]